# Altium integrated library Atmel Microcontroller AVR Automotive.IntLib: 198 symbols (part 7 of 8)
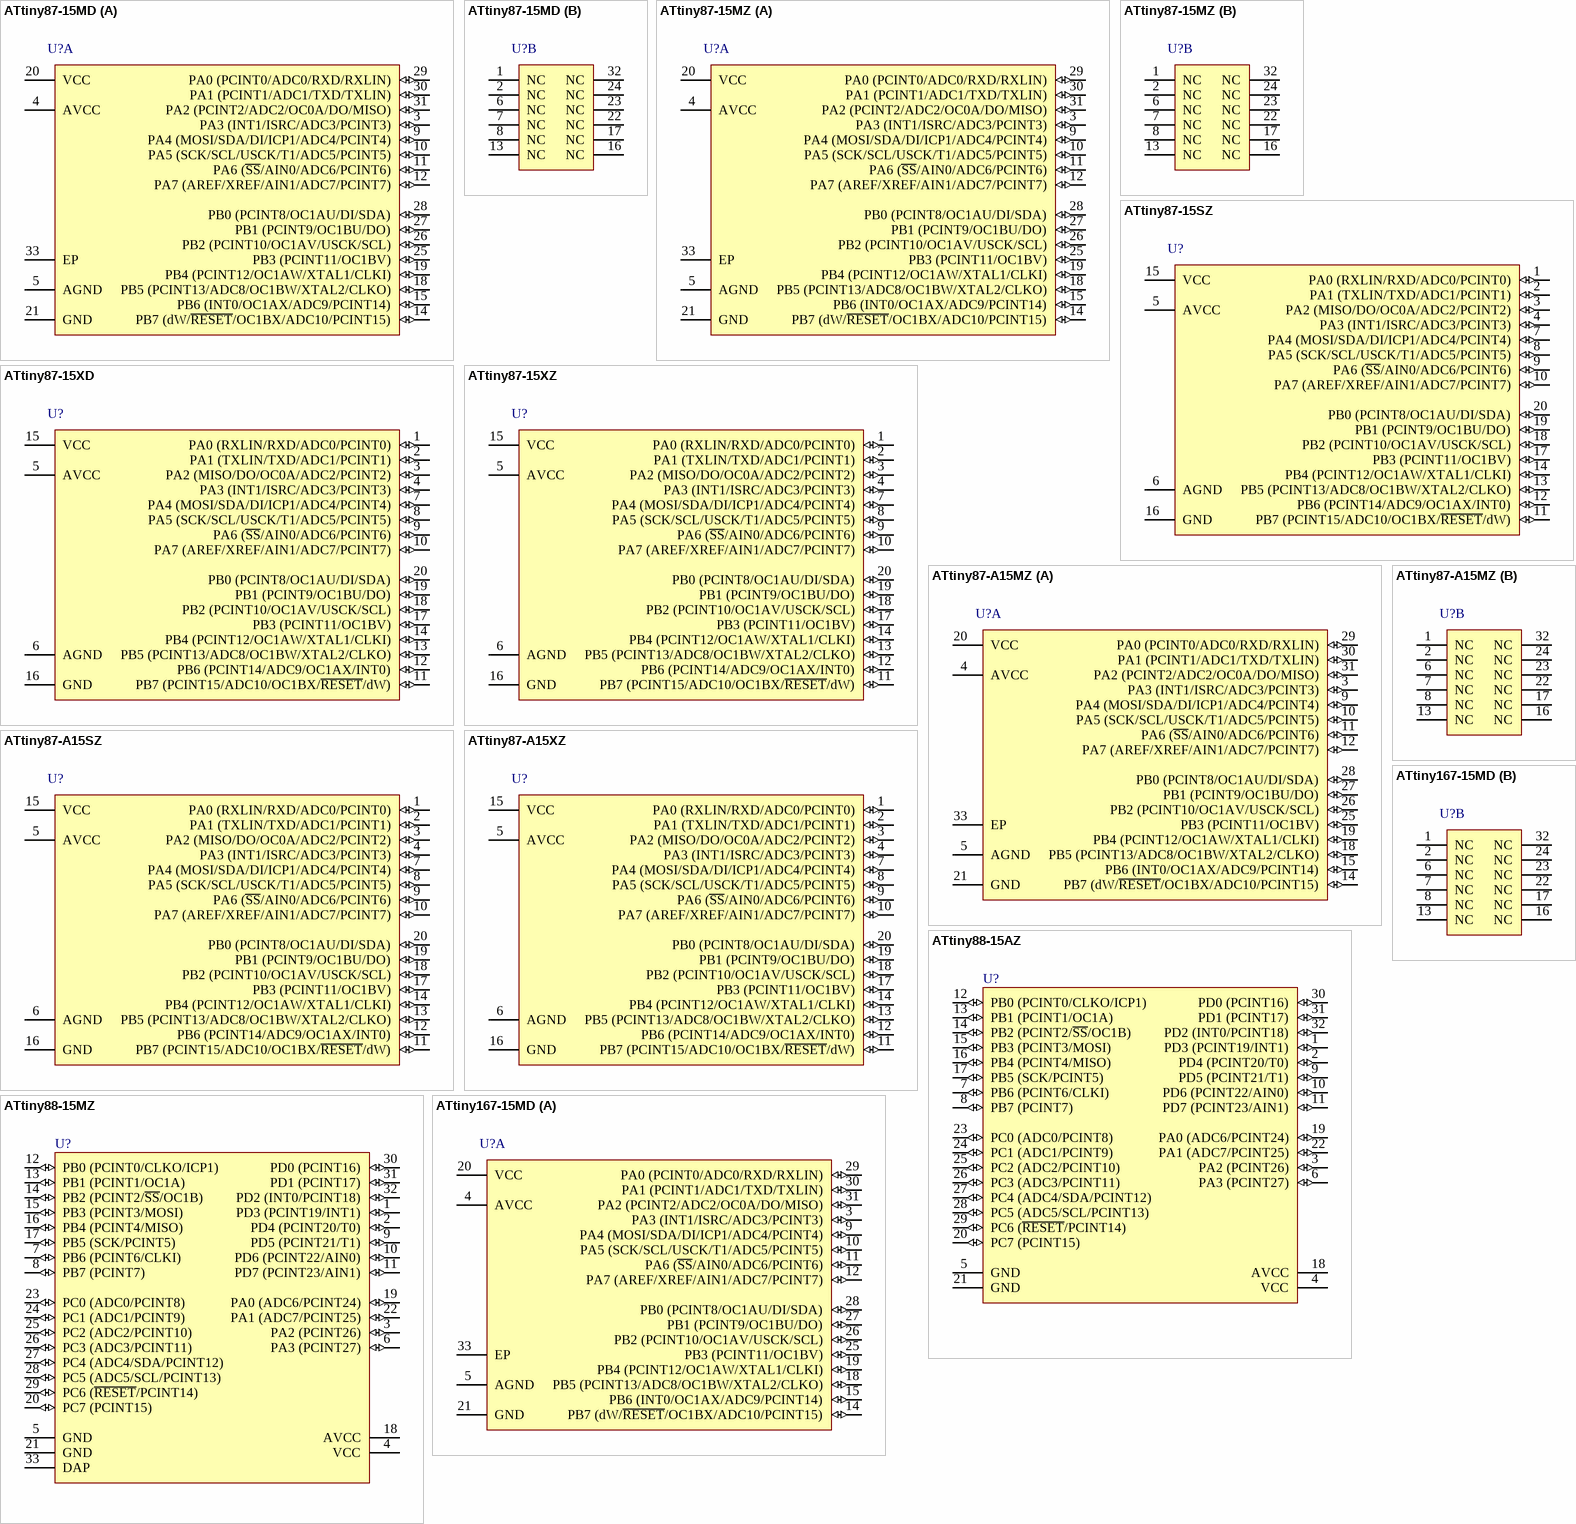
[diagram p28: symbols ATtiny87-15MD to ATtiny167-15MD]

## ATtiny87-A15MZ
designator U?
8-bit Automotive AVR Microcontroller, 16MHz, 2.7-5.5V, 8KB Flash, 512 Bytes EEPROM, 512 Bytes SRAM, Automotive Grade (-40°C to +125°C), 32-Pin VQFN; DatasheetVersion: revG, Jun-2010; PackageVersion: revH, Nov-2008; PackageReference: 32PN; PackageDescription: 32-Pin Quad Flat No-Lead, 5 x 5 mm Body,  0.5 mm Pitch (QFN); Code_JEDEC: MO-220-VHHD-2; ComponentLink1Description: Manufacturer URL; ComponentLink1URL: http://www.atmel.com/; ComponentLink2Description: ATtiny87/ATtiny167 Datasheet; ComponentLink2URL: http://www.atmel.com/dyn/resources/prod_documents/doc7728.pdf
footprint 32PN_N (QFN, 32-Leads, Body 5x5mm, Pitch 0.5mm, Thermal Pad 3.2x3.2mm, IPC Medium Density)
footprint 32PN_L (QFN, 32-Leads, Body 5x5mm, Pitch 0.5mm, Thermal Pad 3.2x3.2mm, IPC High Density)
footprint 32PN_M (QFN, 32-Leads, Body 5x5mm, Pitch 0.5mm, Thermal Pad 3.2x3.2mm, IPC Low Density)
part A pins: 3 PA3 (INT1/ISRC/ADC3/PCINT3) (io), 4 AVCC (power), 5 AGND (power), 9 PA4 (MOSI/SDA/DI/ICP1/ADC4/PCINT4) (io), 10 PA5 (SCK/SCL/USCK/T1/ADC5/PCINT5) (io), 11 PA6 (~{SS}/AIN0/ADC6/PCINT6) (io), 12 PA7 (AREF/XREF/AIN1/ADC7/PCINT7) (io), 14 PB7 (dW/~{RESET}/OC1BX/ADC10/PCINT15) (io), 15 PB6 (INT0/OC1AX/ADC9/PCINT14) (io), 18 PB5 (PCINT13/ADC8/OC1BW/XTAL2/CLKO) (io), 19 PB4 (PCINT12/OC1AW/XTAL1/CLKI) (io), 20 VCC (power), 21 GND (power), 25 PB3 (PCINT11/OC1BV) (io), 26 PB2 (PCINT10/OC1AV/USCK/SCL) (io), 27 PB1 (PCINT9/OC1BU/DO) (io), 28 PB0 (PCINT8/OC1AU/DI/SDA) (io), 29 PA0 (PCINT0/ADC0/RXD/RXLIN) (io), 30 PA1 (PCINT1/ADC1/TXD/TXLIN) (io), 31 PA2 (PCINT2/ADC2/OC0A/DO/MISO) (io), 33 EP (power)
part B pins: 1 NC, 2 NC, 6 NC, 7 NC, 8 NC, 13 NC, 16 NC, 17 NC, 22 NC, 23 NC, 24 NC, 32 NC

## ATtiny87-A15SZ
designator U?
8-bit Automotive AVR Microcontroller, 16MHz, 2.7-5.5V, 8KB Flash, 512 Bytes EEPROM, 512 Bytes SRAM, Automotive Grade (-40°C to +125°C), 20-Pin SOIC; DatasheetVersion: revD, Jul-2009; PackageVersion: 2009; PackageReference: 20TG; PackageDescription: 20-pin, 0.300” Wide, Plastic Gull-Wing Small Outline (EIAJ SOIC); Code_JEDEC: MS-013-AC; Code_IPC: SOIC127P1030-20; ComponentLink1Description: Manufacturer URL; ComponentLink1URL: http://www.atmel.com/; ComponentLink2Description: ATtiny87/ATtiny167 Datasheet; ComponentLink2URL: http://www.atmel.com/dyn/resources/prod_documents/doc7728.pdf
footprint 20TG_N (SOIC, 20-Leads, Body 12.8x7.5mm, Pitch 1.27mm, IPC Medium Density)
footprint 20TG_L (SOIC, 20-Leads, Body 12.8x7.5mm, Pitch 1.27mm, IPC High Density)
footprint 20TG_M (SOIC, 20-Leads, Body 12.8x7.5mm, Pitch 1.27mm, IPC Low Density)
pins: 1 PA0 (RXLIN/RXD/ADC0/PCINT0) (io), 2 PA1 (TXLIN/TXD/ADC1/PCINT1) (io), 3 PA2 (MISO/DO/OC0A/ADC2/PCINT2) (io), 4 PA3 (INT1/ISRC/ADC3/PCINT3) (io), 5 AVCC (power), 6 AGND (power), 7 PA4 (MOSI/SDA/DI/ICP1/ADC4/PCINT4) (io), 8 PA5 (SCK/SCL/USCK/T1/ADC5/PCINT5) (io), 9 PA6 (~{SS}/AIN0/ADC6/PCINT6) (io), 10 PA7 (AREF/XREF/AIN1/ADC7/PCINT7) (io), 11 PB7 (PCINT15/ADC10/OC1BX/~{RESET}/dW) (io), 12 PB6 (PCINT14/ADC9/OC1AX/INT0) (io), 13 PB5 (PCINT13/ADC8/OC1BW/XTAL2/CLKO) (io), 14 PB4 (PCINT12/OC1AW/XTAL1/CLKI) (io), 15 VCC (power), 16 GND (power), 17 PB3 (PCINT11/OC1BV) (io), 18 PB2 (PCINT10/OC1AV/USCK/SCL) (io), 19 PB1 (PCINT9/OC1BU/DO) (io), 20 PB0 (PCINT8/OC1AU/DI/SDA) (io)

## ATtiny87-A15XZ
designator U?
8-bit Automotive AVR Microcontroller, 16MHz, 2.7-5.5V, 8KB Flash, 512 Bytes EEPROM, 512 Bytes SRAM, Automotive Grade (-40°C to +125°C), 20-Pin TSSOP; DatasheetVersion: revD, Jul-2009; PackageVersion: revA, Dec-2007; PackageReference: 6G; PackageDescription: 20-Lead, 4.4 x 6.5 mm Body, 0.65 mm Pitch, Lead Length: 0.6 mm, Thin Shrink Small Outline Package (TSSOP); Code_JEDEC: MO-153-AC; ComponentLink1Description: Manufacturer URL; ComponentLink1URL: http://www.atmel.com/; ComponentLink2Description: ATtiny87/ATtiny167 Datasheet; ComponentLink2URL: http://www.atmel.com/dyn/resources/prod_documents/doc7728.pdf
footprint 6G_N (TSOP, 20-Leads, Body 6.5x4.4mm, Pitch 0.65mm, IPC Medium Density)
footprint 6G_L (TSOP, 20-Leads, Body 6.5x4.4mm, Pitch 0.65mm, IPC High Density)
footprint 6G_M (TSOP, 20-Leads, Body 6.5x4.4mm, Pitch 0.65mm, IPC Low Density)
pins: 1 PA0 (RXLIN/RXD/ADC0/PCINT0) (io), 2 PA1 (TXLIN/TXD/ADC1/PCINT1) (io), 3 PA2 (MISO/DO/OC0A/ADC2/PCINT2) (io), 4 PA3 (INT1/ISRC/ADC3/PCINT3) (io), 5 AVCC (power), 6 AGND (power), 7 PA4 (MOSI/SDA/DI/ICP1/ADC4/PCINT4) (io), 8 PA5 (SCK/SCL/USCK/T1/ADC5/PCINT5) (io), 9 PA6 (~{SS}/AIN0/ADC6/PCINT6) (io), 10 PA7 (AREF/XREF/AIN1/ADC7/PCINT7) (io), 11 PB7 (PCINT15/ADC10/OC1BX/~{RESET}/dW) (io), 12 PB6 (PCINT14/ADC9/OC1AX/INT0) (io), 13 PB5 (PCINT13/ADC8/OC1BW/XTAL2/CLKO) (io), 14 PB4 (PCINT12/OC1AW/XTAL1/CLKI) (io), 15 VCC (power), 16 GND (power), 17 PB3 (PCINT11/OC1BV) (io), 18 PB2 (PCINT10/OC1AV/USCK/SCL) (io), 19 PB1 (PCINT9/OC1BU/DO) (io), 20 PB0 (PCINT8/OC1AU/DI/SDA) (io)

## ATtiny88-15AZ
designator U?
8-bit Automotive AVR Microcontroller, 8KB Flash, 64 Bytes EEPROM, 512 Bytes SRAM, Automotive Grade (-40°C to +125°C), 32-Pin TQFP; DatasheetVersion: revB, Jan-2010; PackageVersion: revB, Jul-2007; PackageReference: 32MA; PackageDescription: 32-Lead Thin Profile Plastic Quad Flatpack (TQFP) - 7x7x1mm Body,  0.8 mm Pitch; ComponentLink1Description: Manufacturer URL; ComponentLink1URL: http://www.atmel.com/; ComponentLink2Description: ATtiny88 Datasheet; ComponentLink2URL: http://www.atmel.com/dyn/resources/prod_documents/doc9157.pdf
footprint 32MA_N (Thin QFP, 32-Leads, Body 7x7mm, Pitch 0.8mm, IPC Medium Density)
footprint 32MA_L (Thin QFP, 32-Leads, Body 7x7mm, Pitch 0.8mm, IPC High Density)
footprint 32MA_M (Thin QFP, 32-Leads, Body 7x7mm, Pitch 0.8mm, IPC Low Density)
pins: 1 PD3 (PCINT19/INT1) (io), 2 PD4 (PCINT20/T0) (io), 3 PA2 (PCINT26) (io), 4 VCC (power), 5 GND (power), 6 PA3 (PCINT27) (io), 7 PB6 (PCINT6/CLKI) (io), 8 PB7 (PCINT7) (io), 9 PD5 (PCINT21/T1) (io), 10 PD6 (PCINT22/AIN0) (io), 11 PD7 (PCINT23/AIN1) (io), 12 PB0 (PCINT0/CLKO/ICP1) (io), 13 PB1 (PCINT1/OC1A) (io), 14 PB2 (PCINT2/~{SS}/OC1B) (io), 15 PB3 (PCINT3/MOSI) (io), 16 PB4 (PCINT4/MISO) (io), 17 PB5 (SCK/PCINT5) (io), 18 AVCC (power), 19 PA0 (ADC6/PCINT24) (io), 20 PC7 (PCINT15) (io), 21 GND (power), 22 PA1 (ADC7/PCINT25) (io), 23 PC0 (ADC0/PCINT8) (io), 24 PC1 (ADC1/PCINT9) (io), 25 PC2 (ADC2/PCINT10) (io), 26 PC3 (ADC3/PCINT11) (io), 27 PC4 (ADC4/SDA/PCINT12) (io), 28 PC5 (ADC5/SCL/PCINT13) (io), 29 PC6 (~{RESET}/PCINT14) (io), 30 PD0 (PCINT16) (io), 31 PD1 (PCINT17) (io), 32 PD2 (INT0/PCINT18) (io)

## ATtiny88-15MZ
designator U?
8-bit Automotive AVR Microcontroller, 8KB Flash, 64 Bytes EEPROM, 512 Bytes SRAM, Automotive Grade (-40°C to +125°C), 32-Pin VQFN; DatasheetVersion: revB, Jan-2010; PackageVersion: revH, Nov-2008; PackageReference: 32PN; PackageDescription: 32-Pin Quad Flat No-Lead, 5 x 5 mm Body,  0.5 mm Pitch (QFN); Code_JEDEC: MO-220-VHHD-2; ComponentLink1Description: Manufacturer URL; ComponentLink1URL: http://www.atmel.com/; ComponentLink2Description: ATtiny88 Datasheet; ComponentLink2URL: http://www.atmel.com/dyn/resources/prod_documents/doc9157.pdf
footprint 32PN_N (QFN, 32-Leads, Body 5x5mm, Pitch 0.5mm, Thermal Pad 3.2x3.2mm, IPC Medium Density)
footprint 32PN_L (QFN, 32-Leads, Body 5x5mm, Pitch 0.5mm, Thermal Pad 3.2x3.2mm, IPC High Density)
footprint 32PN_M (QFN, 32-Leads, Body 5x5mm, Pitch 0.5mm, Thermal Pad 3.2x3.2mm, IPC Low Density)
pins: 1 PD3 (PCINT19/INT1) (io), 2 PD4 (PCINT20/T0) (io), 3 PA2 (PCINT26) (io), 4 VCC (power), 5 GND (power), 6 PA3 (PCINT27) (io), 7 PB6 (PCINT6/CLKI) (io), 8 PB7 (PCINT7) (io), 9 PD5 (PCINT21/T1) (io), 10 PD6 (PCINT22/AIN0) (io), 11 PD7 (PCINT23/AIN1) (io), 12 PB0 (PCINT0/CLKO/ICP1) (io), 13 PB1 (PCINT1/OC1A) (io), 14 PB2 (PCINT2/~{SS}/OC1B) (io), 15 PB3 (PCINT3/MOSI) (io), 16 PB4 (PCINT4/MISO) (io), 17 PB5 (SCK/PCINT5) (io), 18 AVCC (power), 19 PA0 (ADC6/PCINT24) (io), 20 PC7 (PCINT15) (io), 21 GND (power), 22 PA1 (ADC7/PCINT25) (io), 23 PC0 (ADC0/PCINT8) (io), 24 PC1 (ADC1/PCINT9) (io), 25 PC2 (ADC2/PCINT10) (io), 26 PC3 (ADC3/PCINT11) (io), 27 PC4 (ADC4/SDA/PCINT12) (io), 28 PC5 (ADC5/SCL/PCINT13) (io), 29 PC6 (~{RESET}/PCINT14) (io), 30 PD0 (PCINT16) (io), 31 PD1 (PCINT17) (io), 32 PD2 (INT0/PCINT18) (io), 33 DAP

## ATtiny167-15MD
designator U?
8-bit Automotive AVR Microcontroller, 16KB Flash, 512 Bytes EEPROM, 512 Bytes SRAM, Extended Grade (-40°C to +150°C), 32-Pin VQFN; DatasheetVersion: revD, Nov-2010; PackageVersion: revH, Nov-2008; PackageReference: 32PN; PackageDescription: 32-Pin Quad Flat No-Lead, 5 x 5 mm Body,  0.5 mm Pitch (QFN); Code_JEDEC: MO-220-VHHD-2; ComponentLink1Description: Manufacturer URL; ComponentLink1URL: http://www.atmel.com/; ComponentLink2Description: ATtiny87/ATtiny167 Datasheet; ComponentLink2URL: http://www.atmel.com/dyn/resources/prod_documents/doc7728.pdf; ComponentLink3Description: ATtiny87/ATtiny167 Appendix; ComponentLink3URL: http://www.atmel.com/dyn/resources/prod_documents/doc7792.pdf
footprint 32PN_N (QFN, 32-Leads, Body 5x5mm, Pitch 0.5mm, Thermal Pad 3.2x3.2mm, IPC Medium Density)
footprint 32PN_L (QFN, 32-Leads, Body 5x5mm, Pitch 0.5mm, Thermal Pad 3.2x3.2mm, IPC High Density)
footprint 32PN_M (QFN, 32-Leads, Body 5x5mm, Pitch 0.5mm, Thermal Pad 3.2x3.2mm, IPC Low Density)
part A pins: 3 PA3 (INT1/ISRC/ADC3/PCINT3) (io), 4 AVCC (power), 5 AGND (power), 9 PA4 (MOSI/SDA/DI/ICP1/ADC4/PCINT4) (io), 10 PA5 (SCK/SCL/USCK/T1/ADC5/PCINT5) (io), 11 PA6 (~{SS}/AIN0/ADC6/PCINT6) (io), 12 PA7 (AREF/XREF/AIN1/ADC7/PCINT7) (io), 14 PB7 (dW/~{RESET}/OC1BX/ADC10/PCINT15) (io), 15 PB6 (INT0/OC1AX/ADC9/PCINT14) (io), 18 PB5 (PCINT13/ADC8/OC1BW/XTAL2/CLKO) (io), 19 PB4 (PCINT12/OC1AW/XTAL1/CLKI) (io), 20 VCC (power), 21 GND (power), 25 PB3 (PCINT11/OC1BV) (io), 26 PB2 (PCINT10/OC1AV/USCK/SCL) (io), 27 PB1 (PCINT9/OC1BU/DO) (io), 28 PB0 (PCINT8/OC1AU/DI/SDA) (io), 29 PA0 (PCINT0/ADC0/RXD/RXLIN) (io), 30 PA1 (PCINT1/ADC1/TXD/TXLIN) (io), 31 PA2 (PCINT2/ADC2/OC0A/DO/MISO) (io), 33 EP (power)
part B pins: 1 NC, 2 NC, 6 NC, 7 NC, 8 NC, 13 NC, 16 NC, 17 NC, 22 NC, 23 NC, 24 NC, 32 NC

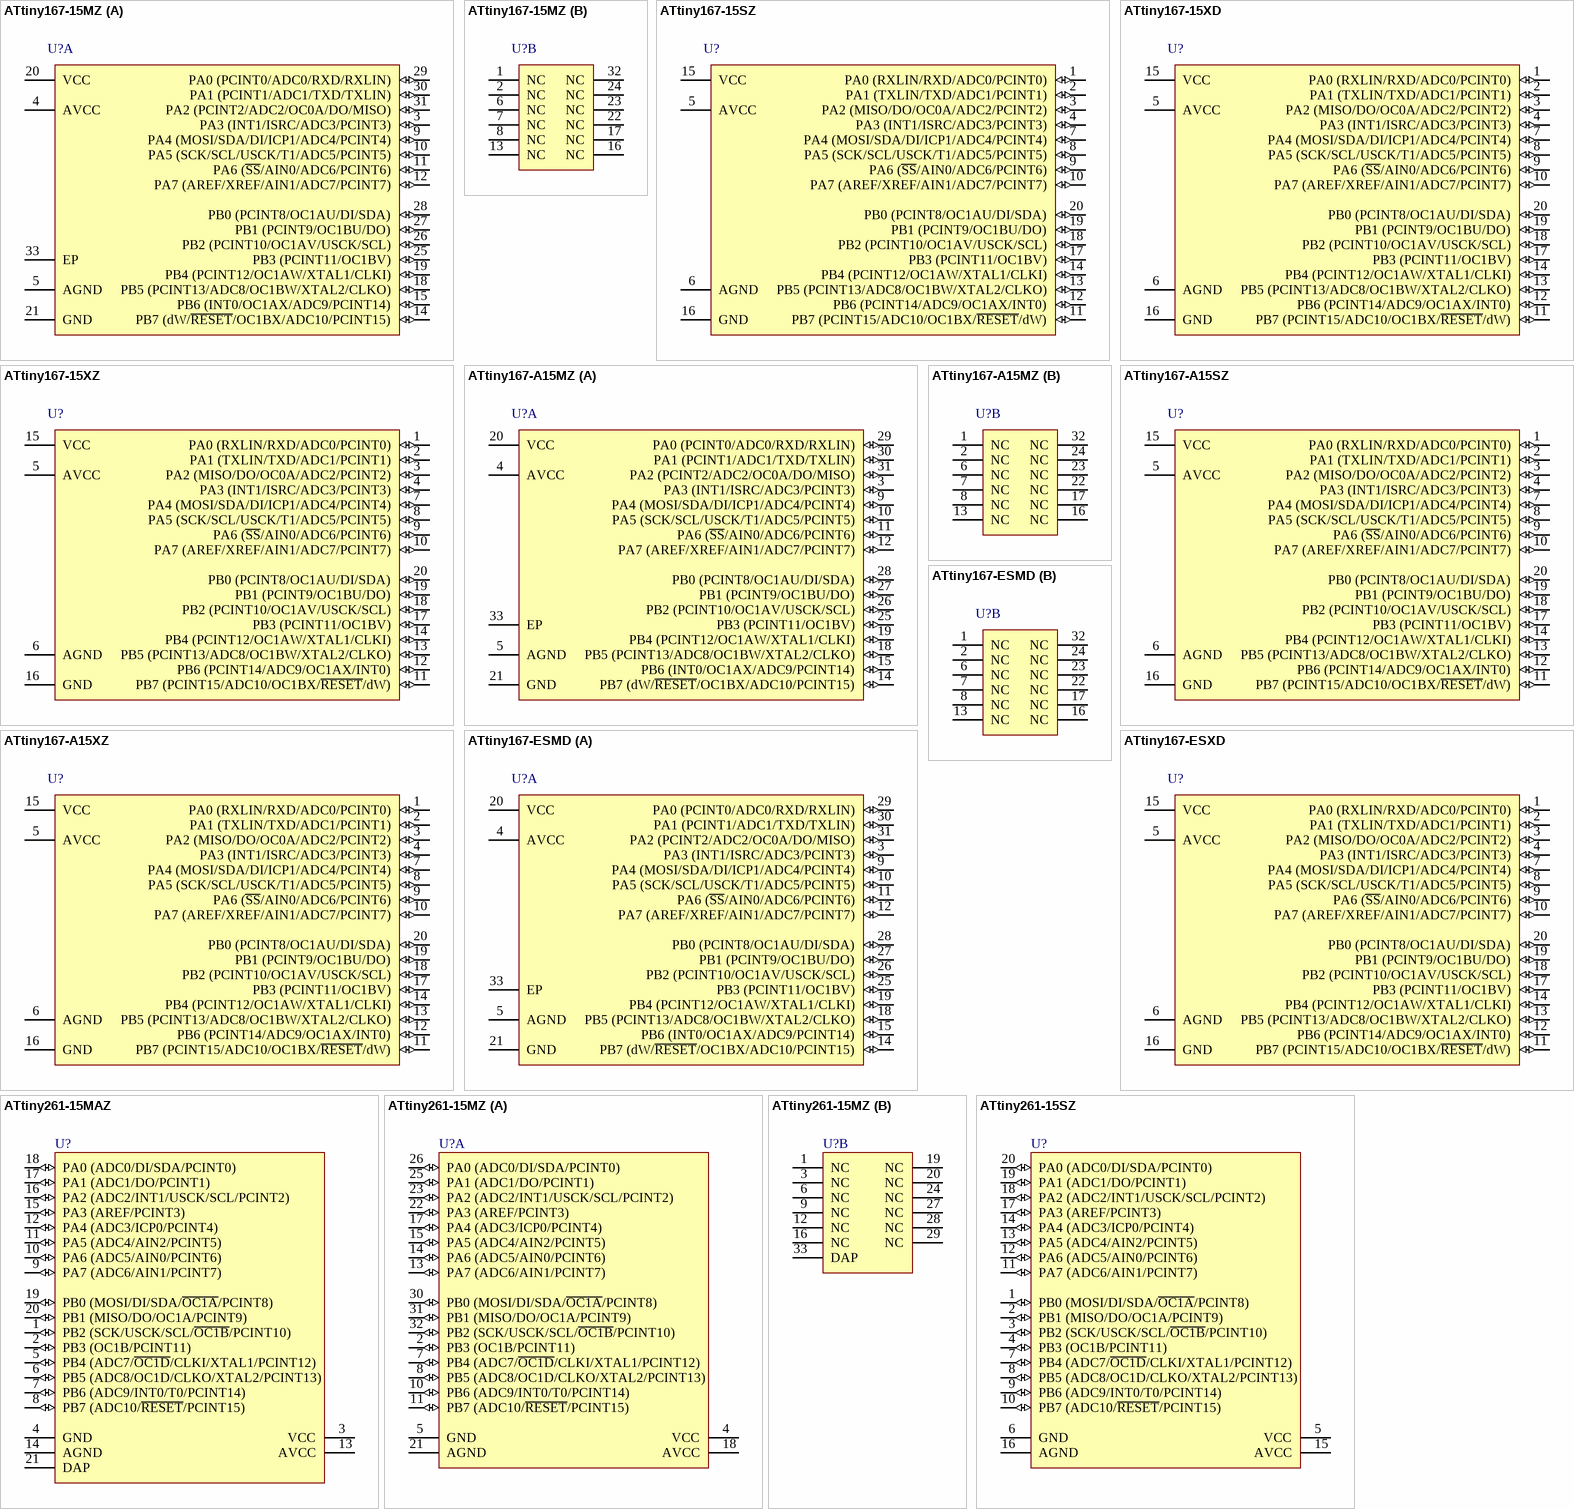
[diagram p19: symbols ATtiny167-15MZ to ATtiny261-15SZ]

## ATtiny167-15MZ
designator U?
8-bit Automotive AVR Microcontroller, 16MHz, 2.7-5.5V, 16KB Flash, 512 Bytes EEPROM, 512 Bytes SRAM, Automotive Grade (-40°C to +125°C), 32-Pin VQFN; DatasheetVersion: revD, Nov-2010; PackageVersion: revH, Nov-2008; PackageReference: 32PN; PackageDescription: 32-Pin Quad Flat No-Lead, 5 x 5 mm Body,  0.5 mm Pitch (QFN); Code_JEDEC: MO-220-VHHD-2; ComponentLink1Description: Manufacturer URL; ComponentLink1URL: http://www.atmel.com/; ComponentLink2Description: ATtiny87/ATtiny167 Datasheet; ComponentLink2URL: http://www.atmel.com/dyn/resources/prod_documents/doc7728.pdf
footprint 32PN_N (QFN, 32-Leads, Body 5x5mm, Pitch 0.5mm, Thermal Pad 3.2x3.2mm, IPC Medium Density)
footprint 32PN_L (QFN, 32-Leads, Body 5x5mm, Pitch 0.5mm, Thermal Pad 3.2x3.2mm, IPC High Density)
footprint 32PN_M (QFN, 32-Leads, Body 5x5mm, Pitch 0.5mm, Thermal Pad 3.2x3.2mm, IPC Low Density)
part A pins: 3 PA3 (INT1/ISRC/ADC3/PCINT3) (io), 4 AVCC (power), 5 AGND (power), 9 PA4 (MOSI/SDA/DI/ICP1/ADC4/PCINT4) (io), 10 PA5 (SCK/SCL/USCK/T1/ADC5/PCINT5) (io), 11 PA6 (~{SS}/AIN0/ADC6/PCINT6) (io), 12 PA7 (AREF/XREF/AIN1/ADC7/PCINT7) (io), 14 PB7 (dW/~{RESET}/OC1BX/ADC10/PCINT15) (io), 15 PB6 (INT0/OC1AX/ADC9/PCINT14) (io), 18 PB5 (PCINT13/ADC8/OC1BW/XTAL2/CLKO) (io), 19 PB4 (PCINT12/OC1AW/XTAL1/CLKI) (io), 20 VCC (power), 21 GND (power), 25 PB3 (PCINT11/OC1BV) (io), 26 PB2 (PCINT10/OC1AV/USCK/SCL) (io), 27 PB1 (PCINT9/OC1BU/DO) (io), 28 PB0 (PCINT8/OC1AU/DI/SDA) (io), 29 PA0 (PCINT0/ADC0/RXD/RXLIN) (io), 30 PA1 (PCINT1/ADC1/TXD/TXLIN) (io), 31 PA2 (PCINT2/ADC2/OC0A/DO/MISO) (io), 33 EP (power)
part B pins: 1 NC, 2 NC, 6 NC, 7 NC, 8 NC, 13 NC, 16 NC, 17 NC, 22 NC, 23 NC, 24 NC, 32 NC

## ATtiny167-15SZ
designator U?
8-bit Automotive AVR Microcontroller, 16MHz, 2.7-5.5V, 16KB Flash, 512 Bytes EEPROM, 512 Bytes SRAM, Automotive Grade (-40°C to +125°C), 20-Pin SOIC; DatasheetVersion: revD, Nov-2010; PackageVersion: 2009; PackageReference: 20TG; PackageDescription: 20-pin, 0.300” Wide, Plastic Gull-Wing Small Outline (EIAJ SOIC); Code_JEDEC: MS-013-AC; Code_IPC: SOIC127P1030-20; ComponentLink1Description: Manufacturer URL; ComponentLink1URL: http://www.atmel.com/; ComponentLink2Description: ATtiny87/ATtiny167 Datasheet; ComponentLink2URL: http://www.atmel.com/dyn/resources/prod_documents/doc7728.pdf
footprint 20TG_N (SOIC, 20-Leads, Body 12.8x7.5mm, Pitch 1.27mm, IPC Medium Density)
footprint 20TG_L (SOIC, 20-Leads, Body 12.8x7.5mm, Pitch 1.27mm, IPC High Density)
footprint 20TG_M (SOIC, 20-Leads, Body 12.8x7.5mm, Pitch 1.27mm, IPC Low Density)
pins: 1 PA0 (RXLIN/RXD/ADC0/PCINT0) (io), 2 PA1 (TXLIN/TXD/ADC1/PCINT1) (io), 3 PA2 (MISO/DO/OC0A/ADC2/PCINT2) (io), 4 PA3 (INT1/ISRC/ADC3/PCINT3) (io), 5 AVCC (power), 6 AGND (power), 7 PA4 (MOSI/SDA/DI/ICP1/ADC4/PCINT4) (io), 8 PA5 (SCK/SCL/USCK/T1/ADC5/PCINT5) (io), 9 PA6 (~{SS}/AIN0/ADC6/PCINT6) (io), 10 PA7 (AREF/XREF/AIN1/ADC7/PCINT7) (io), 11 PB7 (PCINT15/ADC10/OC1BX/~{RESET}/dW) (io), 12 PB6 (PCINT14/ADC9/OC1AX/INT0) (io), 13 PB5 (PCINT13/ADC8/OC1BW/XTAL2/CLKO) (io), 14 PB4 (PCINT12/OC1AW/XTAL1/CLKI) (io), 15 VCC (power), 16 GND (power), 17 PB3 (PCINT11/OC1BV) (io), 18 PB2 (PCINT10/OC1AV/USCK/SCL) (io), 19 PB1 (PCINT9/OC1BU/DO) (io), 20 PB0 (PCINT8/OC1AU/DI/SDA) (io)

## ATtiny167-15XD
designator U?
8-bit Automotive AVR Microcontroller, 16KB Flash, 512 Bytes EEPROM, 512 Bytes SRAM, Extended Grade (-40°C to +150°C), 20-Pin TSSOP; DatasheetVersion: revD, Nov-2010; PackageVersion: revA, Dec-2007; PackageReference: 6G; PackageDescription: 20-Lead, 4.4 x 6.5 mm Body, 0.65 mm Pitch, Lead Length: 0.6 mm, Thin Shrink Small Outline Package (TSSOP); Code_JEDEC: MO-153-AC; ComponentLink1Description: Manufacturer URL; ComponentLink1URL: http://www.atmel.com/; ComponentLink2Description: ATtiny87/ATtiny167 Datasheet; ComponentLink2URL: http://www.atmel.com/dyn/resources/prod_documents/doc7728.pdf; ComponentLink3Description: ATtiny87/ATtiny167 Appendix; ComponentLink3URL: http://www.atmel.com/dyn/resources/prod_documents/doc7792.pdf
footprint 6G_N (TSOP, 20-Leads, Body 6.5x4.4mm, Pitch 0.65mm, IPC Medium Density)
footprint 6G_L (TSOP, 20-Leads, Body 6.5x4.4mm, Pitch 0.65mm, IPC High Density)
footprint 6G_M (TSOP, 20-Leads, Body 6.5x4.4mm, Pitch 0.65mm, IPC Low Density)
pins: 1 PA0 (RXLIN/RXD/ADC0/PCINT0) (io), 2 PA1 (TXLIN/TXD/ADC1/PCINT1) (io), 3 PA2 (MISO/DO/OC0A/ADC2/PCINT2) (io), 4 PA3 (INT1/ISRC/ADC3/PCINT3) (io), 5 AVCC (power), 6 AGND (power), 7 PA4 (MOSI/SDA/DI/ICP1/ADC4/PCINT4) (io), 8 PA5 (SCK/SCL/USCK/T1/ADC5/PCINT5) (io), 9 PA6 (~{SS}/AIN0/ADC6/PCINT6) (io), 10 PA7 (AREF/XREF/AIN1/ADC7/PCINT7) (io), 11 PB7 (PCINT15/ADC10/OC1BX/~{RESET}/dW) (io), 12 PB6 (PCINT14/ADC9/OC1AX/INT0) (io), 13 PB5 (PCINT13/ADC8/OC1BW/XTAL2/CLKO) (io), 14 PB4 (PCINT12/OC1AW/XTAL1/CLKI) (io), 15 VCC (power), 16 GND (power), 17 PB3 (PCINT11/OC1BV) (io), 18 PB2 (PCINT10/OC1AV/USCK/SCL) (io), 19 PB1 (PCINT9/OC1BU/DO) (io), 20 PB0 (PCINT8/OC1AU/DI/SDA) (io)

## ATtiny167-15XZ
designator U?
8-bit Automotive AVR Microcontroller, 16MHz, 2.7-5.5V, 16KB Flash, 512 Bytes EEPROM, 512 Bytes SRAM, Automotive Grade (-40°C to +125°C), 20-Pin TSSOP; DatasheetVersion: revD, Nov-2010; PackageVersion: revA, Dec-2007; PackageReference: 6G; PackageDescription: 20-Lead, 4.4 x 6.5 mm Body, 0.65 mm Pitch, Lead Length: 0.6 mm, Thin Shrink Small Outline Package (TSSOP); Code_JEDEC: MO-153-AC; ComponentLink1Description: Manufacturer URL; ComponentLink1URL: http://www.atmel.com/; ComponentLink2Description: ATtiny87/ATtiny167 Datasheet; ComponentLink2URL: http://www.atmel.com/dyn/resources/prod_documents/doc7728.pdf
footprint 6G_N (TSOP, 20-Leads, Body 6.5x4.4mm, Pitch 0.65mm, IPC Medium Density)
footprint 6G_L (TSOP, 20-Leads, Body 6.5x4.4mm, Pitch 0.65mm, IPC High Density)
footprint 6G_M (TSOP, 20-Leads, Body 6.5x4.4mm, Pitch 0.65mm, IPC Low Density)
pins: 1 PA0 (RXLIN/RXD/ADC0/PCINT0) (io), 2 PA1 (TXLIN/TXD/ADC1/PCINT1) (io), 3 PA2 (MISO/DO/OC0A/ADC2/PCINT2) (io), 4 PA3 (INT1/ISRC/ADC3/PCINT3) (io), 5 AVCC (power), 6 AGND (power), 7 PA4 (MOSI/SDA/DI/ICP1/ADC4/PCINT4) (io), 8 PA5 (SCK/SCL/USCK/T1/ADC5/PCINT5) (io), 9 PA6 (~{SS}/AIN0/ADC6/PCINT6) (io), 10 PA7 (AREF/XREF/AIN1/ADC7/PCINT7) (io), 11 PB7 (PCINT15/ADC10/OC1BX/~{RESET}/dW) (io), 12 PB6 (PCINT14/ADC9/OC1AX/INT0) (io), 13 PB5 (PCINT13/ADC8/OC1BW/XTAL2/CLKO) (io), 14 PB4 (PCINT12/OC1AW/XTAL1/CLKI) (io), 15 VCC (power), 16 GND (power), 17 PB3 (PCINT11/OC1BV) (io), 18 PB2 (PCINT10/OC1AV/USCK/SCL) (io), 19 PB1 (PCINT9/OC1BU/DO) (io), 20 PB0 (PCINT8/OC1AU/DI/SDA) (io)

## ATtiny167-A15MZ
designator U?
8-bit Automotive AVR Microcontroller, 16MHz, 2.7-5.5V, 16KB Flash, 512 Bytes EEPROM, 512 Bytes SRAM, Automotive Grade (-40°C to +125°C), 32-Pin VQFN; DatasheetVersion: revD, Jul-2009; PackageVersion: revH, Nov-2008; PackageReference: 32PN; PackageDescription: 32-Pin Quad Flat No-Lead, 5 x 5 mm Body,  0.5 mm Pitch (QFN); Code_JEDEC: MO-220-VHHD-2; ComponentLink1Description: Manufacturer URL; ComponentLink1URL: http://www.atmel.com/; ComponentLink2Description: ATtiny87/ATtiny167 Datasheet; ComponentLink2URL: http://www.atmel.com/dyn/resources/prod_documents/doc7728.pdf
footprint 32PN_N (QFN, 32-Leads, Body 5x5mm, Pitch 0.5mm, Thermal Pad 3.2x3.2mm, IPC Medium Density)
footprint 32PN_L (QFN, 32-Leads, Body 5x5mm, Pitch 0.5mm, Thermal Pad 3.2x3.2mm, IPC High Density)
footprint 32PN_M (QFN, 32-Leads, Body 5x5mm, Pitch 0.5mm, Thermal Pad 3.2x3.2mm, IPC Low Density)
part A pins: 3 PA3 (INT1/ISRC/ADC3/PCINT3) (io), 4 AVCC (power), 5 AGND (power), 9 PA4 (MOSI/SDA/DI/ICP1/ADC4/PCINT4) (io), 10 PA5 (SCK/SCL/USCK/T1/ADC5/PCINT5) (io), 11 PA6 (~{SS}/AIN0/ADC6/PCINT6) (io), 12 PA7 (AREF/XREF/AIN1/ADC7/PCINT7) (io), 14 PB7 (dW/~{RESET}/OC1BX/ADC10/PCINT15) (io), 15 PB6 (INT0/OC1AX/ADC9/PCINT14) (io), 18 PB5 (PCINT13/ADC8/OC1BW/XTAL2/CLKO) (io), 19 PB4 (PCINT12/OC1AW/XTAL1/CLKI) (io), 20 VCC (power), 21 GND (power), 25 PB3 (PCINT11/OC1BV) (io), 26 PB2 (PCINT10/OC1AV/USCK/SCL) (io), 27 PB1 (PCINT9/OC1BU/DO) (io), 28 PB0 (PCINT8/OC1AU/DI/SDA) (io), 29 PA0 (PCINT0/ADC0/RXD/RXLIN) (io), 30 PA1 (PCINT1/ADC1/TXD/TXLIN) (io), 31 PA2 (PCINT2/ADC2/OC0A/DO/MISO) (io), 33 EP (power)
part B pins: 1 NC, 2 NC, 6 NC, 7 NC, 8 NC, 13 NC, 16 NC, 17 NC, 22 NC, 23 NC, 24 NC, 32 NC

## ATtiny167-A15SZ
designator U?
8-bit Automotive AVR Microcontroller, 16MHz, 2.7-5.5V, 16KB Flash, 512 Bytes EEPROM, 512 Bytes SRAM, Automotive Grade (-40°C to +125°C), 20-Pin SOIC; DatasheetVersion: revD, Jul-2009; PackageVersion: 2009; PackageReference: 20TG; PackageDescription: 20-pin, 0.300” Wide, Plastic Gull-Wing Small Outline (EIAJ SOIC); Code_JEDEC: MS-013-AC; Code_IPC: SOIC127P1030-20; ComponentLink1Description: Manufacturer URL; ComponentLink1URL: http://www.atmel.com/; ComponentLink2Description: ATtiny87/ATtiny167 Datasheet; ComponentLink2URL: http://www.atmel.com/dyn/resources/prod_documents/doc7728.pdf
footprint 20TG_N (SOIC, 20-Leads, Body 12.8x7.5mm, Pitch 1.27mm, IPC Medium Density)
footprint 20TG_L (SOIC, 20-Leads, Body 12.8x7.5mm, Pitch 1.27mm, IPC High Density)
footprint 20TG_M (SOIC, 20-Leads, Body 12.8x7.5mm, Pitch 1.27mm, IPC Low Density)
pins: 1 PA0 (RXLIN/RXD/ADC0/PCINT0) (io), 2 PA1 (TXLIN/TXD/ADC1/PCINT1) (io), 3 PA2 (MISO/DO/OC0A/ADC2/PCINT2) (io), 4 PA3 (INT1/ISRC/ADC3/PCINT3) (io), 5 AVCC (power), 6 AGND (power), 7 PA4 (MOSI/SDA/DI/ICP1/ADC4/PCINT4) (io), 8 PA5 (SCK/SCL/USCK/T1/ADC5/PCINT5) (io), 9 PA6 (~{SS}/AIN0/ADC6/PCINT6) (io), 10 PA7 (AREF/XREF/AIN1/ADC7/PCINT7) (io), 11 PB7 (PCINT15/ADC10/OC1BX/~{RESET}/dW) (io), 12 PB6 (PCINT14/ADC9/OC1AX/INT0) (io), 13 PB5 (PCINT13/ADC8/OC1BW/XTAL2/CLKO) (io), 14 PB4 (PCINT12/OC1AW/XTAL1/CLKI) (io), 15 VCC (power), 16 GND (power), 17 PB3 (PCINT11/OC1BV) (io), 18 PB2 (PCINT10/OC1AV/USCK/SCL) (io), 19 PB1 (PCINT9/OC1BU/DO) (io), 20 PB0 (PCINT8/OC1AU/DI/SDA) (io)

## ATtiny167-A15XZ
designator U?
8-bit Automotive AVR Microcontroller, 16MHz, 2.7-5.5V, 16KB Flash, 512 Bytes EEPROM, 512 Bytes SRAM, Automotive Grade (-40°C to +125°C), 20-Pin TSSOP; DatasheetVersion: revD, Jul-2009; PackageVersion: revA, Dec-2007; PackageReference: 6G; PackageDescription: 20-Lead, 4.4 x 6.5 mm Body, 0.65 mm Pitch, Lead Length: 0.6 mm, Thin Shrink Small Outline Package (TSSOP); Code_JEDEC: MO-153-AC; ComponentLink1Description: Manufacturer URL; ComponentLink1URL: http://www.atmel.com/; ComponentLink2Description: ATtiny87/ATtiny167 Datasheet; ComponentLink2URL: http://www.atmel.com/dyn/resources/prod_documents/doc7728.pdf
footprint 6G_N (TSOP, 20-Leads, Body 6.5x4.4mm, Pitch 0.65mm, IPC Medium Density)
footprint 6G_L (TSOP, 20-Leads, Body 6.5x4.4mm, Pitch 0.65mm, IPC High Density)
footprint 6G_M (TSOP, 20-Leads, Body 6.5x4.4mm, Pitch 0.65mm, IPC Low Density)
pins: 1 PA0 (RXLIN/RXD/ADC0/PCINT0) (io), 2 PA1 (TXLIN/TXD/ADC1/PCINT1) (io), 3 PA2 (MISO/DO/OC0A/ADC2/PCINT2) (io), 4 PA3 (INT1/ISRC/ADC3/PCINT3) (io), 5 AVCC (power), 6 AGND (power), 7 PA4 (MOSI/SDA/DI/ICP1/ADC4/PCINT4) (io), 8 PA5 (SCK/SCL/USCK/T1/ADC5/PCINT5) (io), 9 PA6 (~{SS}/AIN0/ADC6/PCINT6) (io), 10 PA7 (AREF/XREF/AIN1/ADC7/PCINT7) (io), 11 PB7 (PCINT15/ADC10/OC1BX/~{RESET}/dW) (io), 12 PB6 (PCINT14/ADC9/OC1AX/INT0) (io), 13 PB5 (PCINT13/ADC8/OC1BW/XTAL2/CLKO) (io), 14 PB4 (PCINT12/OC1AW/XTAL1/CLKI) (io), 15 VCC (power), 16 GND (power), 17 PB3 (PCINT11/OC1BV) (io), 18 PB2 (PCINT10/OC1AV/USCK/SCL) (io), 19 PB1 (PCINT9/OC1BU/DO) (io), 20 PB0 (PCINT8/OC1AU/DI/SDA) (io)

## ATtiny167-ESMD
designator U?
8-bit Automotive AVR Microcontroller, 16KB Flash, 512 Bytes EEPROM, 512 Bytes SRAM, 32-Pin VQFN, Engineering Sample; DatasheetVersion: revG, Jun-2010; PackageVersion: revH, Nov-2008; PackageReference: 32PN; PackageDescription: 32-Pin Quad Flat No-Lead, 5 x 5 mm Body,  0.5 mm Pitch (QFN); Code_JEDEC: MO-220-VHHD-2; ComponentLink1Description: Manufacturer URL; ComponentLink1URL: http://www.atmel.com/; ComponentLink2Description: ATtiny87/ATtiny167 Datasheet; ComponentLink2URL: http://www.atmel.com/dyn/resources/prod_documents/doc7728.pdf; ComponentLink3Description: ATtiny87/ATtiny167 Appendix; ComponentLink3URL: http://www.atmel.com/dyn/resources/prod_documents/doc7792.pdf
footprint 32PN_N (QFN, 32-Leads, Body 5x5mm, Pitch 0.5mm, Thermal Pad 3.2x3.2mm, IPC Medium Density)
footprint 32PN_L (QFN, 32-Leads, Body 5x5mm, Pitch 0.5mm, Thermal Pad 3.2x3.2mm, IPC High Density)
footprint 32PN_M (QFN, 32-Leads, Body 5x5mm, Pitch 0.5mm, Thermal Pad 3.2x3.2mm, IPC Low Density)
part A pins: 3 PA3 (INT1/ISRC/ADC3/PCINT3) (io), 4 AVCC (power), 5 AGND (power), 9 PA4 (MOSI/SDA/DI/ICP1/ADC4/PCINT4) (io), 10 PA5 (SCK/SCL/USCK/T1/ADC5/PCINT5) (io), 11 PA6 (~{SS}/AIN0/ADC6/PCINT6) (io), 12 PA7 (AREF/XREF/AIN1/ADC7/PCINT7) (io), 14 PB7 (dW/~{RESET}/OC1BX/ADC10/PCINT15) (io), 15 PB6 (INT0/OC1AX/ADC9/PCINT14) (io), 18 PB5 (PCINT13/ADC8/OC1BW/XTAL2/CLKO) (io), 19 PB4 (PCINT12/OC1AW/XTAL1/CLKI) (io), 20 VCC (power), 21 GND (power), 25 PB3 (PCINT11/OC1BV) (io), 26 PB2 (PCINT10/OC1AV/USCK/SCL) (io), 27 PB1 (PCINT9/OC1BU/DO) (io), 28 PB0 (PCINT8/OC1AU/DI/SDA) (io), 29 PA0 (PCINT0/ADC0/RXD/RXLIN) (io), 30 PA1 (PCINT1/ADC1/TXD/TXLIN) (io), 31 PA2 (PCINT2/ADC2/OC0A/DO/MISO) (io), 33 EP (power)
part B pins: 1 NC, 2 NC, 6 NC, 7 NC, 8 NC, 13 NC, 16 NC, 17 NC, 22 NC, 23 NC, 24 NC, 32 NC

## ATtiny167-ESXD
designator U?
8-bit Automotive AVR Microcontroller, 16KB Flash, 512 Bytes EEPROM, 512 Bytes SRAM, 20-Pin TSSOP, Engineering Sample; DatasheetVersion: revG, Jun-2010; PackageVersion: revA, Dec-2007; PackageReference: 6G; PackageDescription: 20-Lead, 4.4 x 6.5 mm Body, 0.65 mm Pitch, Lead Length: 0.6 mm, Thin Shrink Small Outline Package (TSSOP); Code_JEDEC: MO-153-AC; ComponentLink1Description: Manufacturer URL; ComponentLink1URL: http://www.atmel.com/; ComponentLink2Description: ATtiny87/ATtiny167 Datasheet; ComponentLink2URL: http://www.atmel.com/dyn/resources/prod_documents/doc7728.pdf; ComponentLink3Description: ATtiny87/ATtiny167 Appendix; ComponentLink3URL: http://www.atmel.com/dyn/resources/prod_documents/doc7792.pdf
footprint 6G_N (TSOP, 20-Leads, Body 6.5x4.4mm, Pitch 0.65mm, IPC Medium Density)
footprint 6G_L (TSOP, 20-Leads, Body 6.5x4.4mm, Pitch 0.65mm, IPC High Density)
footprint 6G_M (TSOP, 20-Leads, Body 6.5x4.4mm, Pitch 0.65mm, IPC Low Density)
pins: 1 PA0 (RXLIN/RXD/ADC0/PCINT0) (io), 2 PA1 (TXLIN/TXD/ADC1/PCINT1) (io), 3 PA2 (MISO/DO/OC0A/ADC2/PCINT2) (io), 4 PA3 (INT1/ISRC/ADC3/PCINT3) (io), 5 AVCC (power), 6 AGND (power), 7 PA4 (MOSI/SDA/DI/ICP1/ADC4/PCINT4) (io), 8 PA5 (SCK/SCL/USCK/T1/ADC5/PCINT5) (io), 9 PA6 (~{SS}/AIN0/ADC6/PCINT6) (io), 10 PA7 (AREF/XREF/AIN1/ADC7/PCINT7) (io), 11 PB7 (PCINT15/ADC10/OC1BX/~{RESET}/dW) (io), 12 PB6 (PCINT14/ADC9/OC1AX/INT0) (io), 13 PB5 (PCINT13/ADC8/OC1BW/XTAL2/CLKO) (io), 14 PB4 (PCINT12/OC1AW/XTAL1/CLKI) (io), 15 VCC (power), 16 GND (power), 17 PB3 (PCINT11/OC1BV) (io), 18 PB2 (PCINT10/OC1AV/USCK/SCL) (io), 19 PB1 (PCINT9/OC1BU/DO) (io), 20 PB0 (PCINT8/OC1AU/DI/SDA) (io)

## ATtiny261-15MAZ
designator U?
8-bit Automotive AVR Microcontroller, 16MHz, 2.7-5.5V, 2KB Flash, 128 Bytes EEPROM, 128 Bytes SRAM, Automotive Grade (-40°C to +125°C), 20-Pin QFN; DatasheetVersion: revF, Jan-2011; PackageVersion: revG, Jul-2007; PackageReference: 20PC; PackageDescription: 20-Lead, 4 x 4 x 0.8 mm Body, 0.50 mm Pitch, Quad Flat No-Lead Package (QFN); Code_JEDEC: MO-220WGGD-5; ComponentLink1Description: Manufacturer URL; ComponentLink1URL: http://www.atmel.com/; ComponentLink2Description: ATiny261/461/861 Datasheet; ComponentLink2URL: http://www.atmel.com/dyn/resources/prod_documents/doc7753.pdf; ComponentLink3Description: ATiny261/461/861 Summary; ComponentLink3URL: http://www.atmel.com/dyn/resources/prod_documents/7753S.pdf
footprint 20PC_N (QFN, 20-Leads, Body 4x4mm, Pitch 0.5mm, Thermal Pad 2.7x2.7mm, IPC Medium Density)
footprint 20PC_L (QFN, 20-Leads, Body 4x4mm, Pitch 0.5mm, Thermal Pad 2.7x2.7mm, IPC High Density)
footprint 20PC_M (QFN, 20-Leads, Body 4x4mm, Pitch 0.5mm, Thermal Pad 2.7x2.7mm, IPC Low Density)
pins: 1 PB2 (SCK/USCK/SCL/~{OC1B}/PCINT10) (io), 2 PB3 (OC1B/PCINT11) (io), 3 VCC (power), 4 GND (power), 5 PB4 (ADC7/~{OC1D}/CLKI/XTAL1/PCINT12) (io), 6 PB5 (ADC8/OC1D/CLKO/XTAL2/PCINT13) (io), 7 PB6 (ADC9/INT0/T0/PCINT14) (io), 8 PB7 (ADC10/~{RESET}/PCINT15) (io), 9 PA7 (ADC6/AIN1/PCINT7) (io), 10 PA6 (ADC5/AIN0/PCINT6) (io), 11 PA5 (ADC4/AIN2/PCINT5) (io), 12 PA4 (ADC3/ICP0/PCINT4) (io), 13 AVCC (power), 14 AGND (power), 15 PA3 (AREF/PCINT3) (io), 16 PA2 (ADC2/INT1/USCK/SCL/PCINT2) (io), 17 PA1 (ADC1/DO/PCINT1) (io), 18 PA0 (ADC0/DI/SDA/PCINT0) (io), 19 PB0 (MOSI/DI/SDA/~{OC1A}/PCINT8) (io), 20 PB1 (MISO/DO/OC1A/PCINT9) (io), 21 DAP (power)

## ATtiny261-15MZ
designator U?
8-bit Automotive AVR Microcontroller, 16MHz, 2.7-5.5V, 2KB Flash, 128 Bytes EEPROM, 128 Bytes SRAM, Automotive Grade (-40°C to +125°C), 32-Pin VQFN; DatasheetVersion: revD, Nov-2010; PackageVersion: revH, Nov-2008; PackageReference: 32PN; PackageDescription: 32-Pin Quad Flat No-Lead, 5 x 5 mm Body,  0.5 mm Pitch (QFN); Code_JEDEC: MO-220-VHHD-2; ComponentLink1Description: Manufacturer URL; ComponentLink1URL: http://www.atmel.com/; ComponentLink2Description: ATiny261/461/861 Datasheet; ComponentLink2URL: http://www.atmel.com/dyn/resources/prod_documents/doc7753.pdf; ComponentLink3Description: ATiny261/461/861 Summary; ComponentLink3URL: http://www.atmel.com/dyn/resources/prod_documents/7753S.pdf
footprint 32PN_N (QFN, 32-Leads, Body 5x5mm, Pitch 0.5mm, Thermal Pad 3.2x3.2mm, IPC Medium Density)
footprint 32PN_L (QFN, 32-Leads, Body 5x5mm, Pitch 0.5mm, Thermal Pad 3.2x3.2mm, IPC High Density)
footprint 32PN_M (QFN, 32-Leads, Body 5x5mm, Pitch 0.5mm, Thermal Pad 3.2x3.2mm, IPC Low Density)
part A pins: 2 PB3 (OC1B/PCINT11) (io), 4 VCC (power), 5 GND (power), 7 PB4 (ADC7/~{OC1D}/CLKI/XTAL1/PCINT12) (io), 8 PB5 (ADC8/OC1D/CLKO/XTAL2/PCINT13) (io), 10 PB6 (ADC9/INT0/T0/PCINT14) (io), 11 PB7 (ADC10/~{RESET}/PCINT15) (io), 13 PA7 (ADC6/AIN1/PCINT7) (io), 14 PA6 (ADC5/AIN0/PCINT6) (io), 15 PA5 (ADC4/AIN2/PCINT5) (io), 17 PA4 (ADC3/ICP0/PCINT4) (io), 18 AVCC (power), 21 AGND (power), 22 PA3 (AREF/PCINT3) (io), 23 PA2 (ADC2/INT1/USCK/SCL/PCINT2) (io), 25 PA1 (ADC1/DO/PCINT1) (io), 26 PA0 (ADC0/DI/SDA/PCINT0) (io), 30 PB0 (MOSI/DI/SDA/~{OC1A}/PCINT8) (io), 31 PB1 (MISO/DO/OC1A/PCINT9) (io), 32 PB2 (SCK/USCK/SCL/~{OC1B}/PCINT10) (io)
part B pins: 1 NC, 3 NC, 6 NC, 9 NC, 12 NC, 16 NC, 19 NC, 20 NC, 24 NC, 27 NC, 28 NC, 29 NC, 33 DAP (power)

## ATtiny261-15SZ
designator U?
8-bit Automotive AVR Microcontroller, 16MHz, 2.7-5.5V, 2KB Flash, 128 Bytes EEPROM, 128 Bytes SRAM, Automotive Grade (-40°C to +125°C), 20-Pin SOIC; DatasheetVersion: revD, Nov-2010; PackageVersion: 2009; PackageReference: 20TG; PackageDescription: 20-pin, 0.300” Wide, Plastic Gull-Wing Small Outline (EIAJ SOIC); Code_JEDEC: MS-013-AC; Code_IPC: SOIC127P1030-20; ComponentLink1Description: Manufacturer URL; ComponentLink1URL: http://www.atmel.com/; ComponentLink2Description: ATiny261/461/861 Datasheet; ComponentLink2URL: http://www.atmel.com/dyn/resources/prod_documents/doc7753.pdf; ComponentLink3Description: ATiny261/461/861 Summary; ComponentLink3URL: http://www.atmel.com/dyn/resources/prod_documents/7753S.pdf
footprint 20TG_N (SOIC, 20-Leads, Body 12.8x7.5mm, Pitch 1.27mm, IPC Medium Density)
footprint 20TG_L (SOIC, 20-Leads, Body 12.8x7.5mm, Pitch 1.27mm, IPC High Density)
footprint 20TG_M (SOIC, 20-Leads, Body 12.8x7.5mm, Pitch 1.27mm, IPC Low Density)
pins: 1 PB0 (MOSI/DI/SDA/~{OC1A}/PCINT8) (io), 2 PB1 (MISO/DO/OC1A/PCINT9) (io), 3 PB2 (SCK/USCK/SCL/~{OC1B}/PCINT10) (io), 4 PB3 (OC1B/PCINT11) (io), 5 VCC (power), 6 GND (power), 7 PB4 (ADC7/~{OC1D}/CLKI/XTAL1/PCINT12) (io), 8 PB5 (ADC8/OC1D/CLKO/XTAL2/PCINT13) (io), 9 PB6 (ADC9/INT0/T0/PCINT14) (io), 10 PB7 (ADC10/~{RESET}/PCINT15) (io), 11 PA7 (ADC6/AIN1/PCINT7) (io), 12 PA6 (ADC5/AIN0/PCINT6) (io), 13 PA5 (ADC4/AIN2/PCINT5) (io), 14 PA4 (ADC3/ICP0/PCINT4) (io), 15 AVCC (power), 16 AGND (power), 17 PA3 (AREF/PCINT3) (io), 18 PA2 (ADC2/INT1/USCK/SCL/PCINT2) (io), 19 PA1 (ADC1/DO/PCINT1) (io), 20 PA0 (ADC0/DI/SDA/PCINT0) (io)

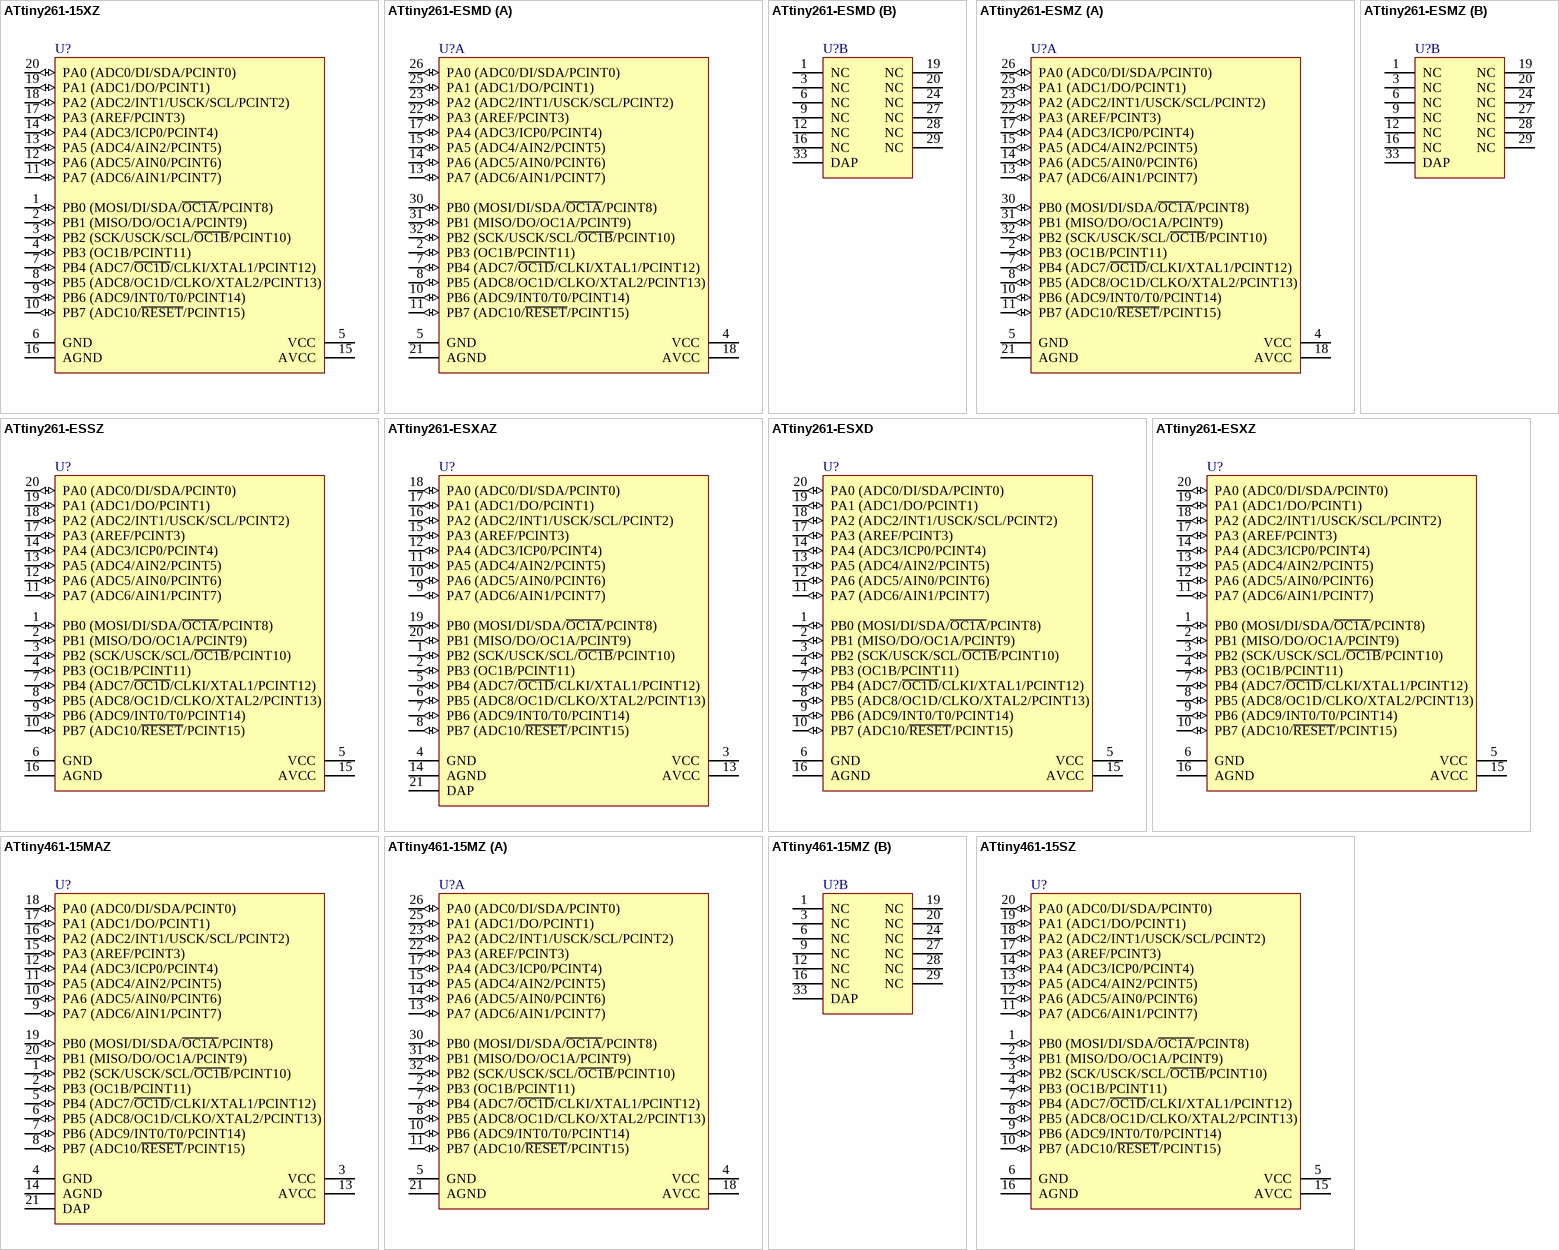
[diagram p20: symbols ATtiny261-15XZ to ATtiny461-15SZ]

## ATtiny261-15XZ
designator U?
8-bit Automotive AVR Microcontroller, 16MHz, 2.7-5.5V, 2KB Flash, 128 Bytes EEPROM, 128 Bytes SRAM, Automotive Grade (-40°C to +125°C), 20-Pin TSSOP; DatasheetVersion: revD, Nov-2010; PackageVersion: revA, Dec-2007; PackageReference: 6G; PackageDescription: 20-Lead, 4.4 x 6.5 mm Body, 0.65 mm Pitch, Lead Length: 0.6 mm, Thin Shrink Small Outline Package (TSSOP); Code_JEDEC: MO-153-AC; ComponentLink1Description: Manufacturer URL; ComponentLink1URL: http://www.atmel.com/; ComponentLink2Description: ATiny261/461/861 Datasheet; ComponentLink2URL: http://www.atmel.com/dyn/resources/prod_documents/doc7753.pdf; ComponentLink3Description: ATiny261/461/861 Summary; ComponentLink3URL: http://www.atmel.com/dyn/resources/prod_documents/7753S.pdf
footprint 6G_N (TSOP, 20-Leads, Body 6.5x4.4mm, Pitch 0.65mm, IPC Medium Density)
footprint 6G_L (TSOP, 20-Leads, Body 6.5x4.4mm, Pitch 0.65mm, IPC High Density)
footprint 6G_M (TSOP, 20-Leads, Body 6.5x4.4mm, Pitch 0.65mm, IPC Low Density)
pins: 1 PB0 (MOSI/DI/SDA/~{OC1A}/PCINT8) (io), 2 PB1 (MISO/DO/OC1A/PCINT9) (io), 3 PB2 (SCK/USCK/SCL/~{OC1B}/PCINT10) (io), 4 PB3 (OC1B/PCINT11) (io), 5 VCC (power), 6 GND (power), 7 PB4 (ADC7/~{OC1D}/CLKI/XTAL1/PCINT12) (io), 8 PB5 (ADC8/OC1D/CLKO/XTAL2/PCINT13) (io), 9 PB6 (ADC9/INT0/T0/PCINT14) (io), 10 PB7 (ADC10/~{RESET}/PCINT15) (io), 11 PA7 (ADC6/AIN1/PCINT7) (io), 12 PA6 (ADC5/AIN0/PCINT6) (io), 13 PA5 (ADC4/AIN2/PCINT5) (io), 14 PA4 (ADC3/ICP0/PCINT4) (io), 15 AVCC (power), 16 AGND (power), 17 PA3 (AREF/PCINT3) (io), 18 PA2 (ADC2/INT1/USCK/SCL/PCINT2) (io), 19 PA1 (ADC1/DO/PCINT1) (io), 20 PA0 (ADC0/DI/SDA/PCINT0) (io)

## ATtiny261-ESMD
designator U?
8-bit Automotive AVR Microcontroller, 16MHz, 2.7-5.5V, 2KB Flash, 128 Bytes EEPROM, 128 Bytes SRAM, Extended Grade (-40°C to +150°C), 32-Pin VQFN; DatasheetVersion: revD, Nov-2010; PackageVersion: revH, Nov-2008; PackageReference: 32PN; PackageDescription: 32-Pin Quad Flat No-Lead, 5 x 5 mm Body,  0.5 mm Pitch (QFN); Code_JEDEC: MO-220-VHHD-2; ComponentLink1Description: Manufacturer URL; ComponentLink1URL: http://www.atmel.com/; ComponentLink2Description: ATiny261/461/861 Datasheet; ComponentLink2URL: http://www.atmel.com/dyn/resources/prod_documents/doc7753.pdf; ComponentLink3Description: ATiny261/461/861 Summary; ComponentLink3URL: http://www.atmel.com/dyn/resources/prod_documents/7753S.pdf; ComponentLink4Description: ATiny261/461/861 Appendix; ComponentLink4URL: http://www.atmel.com/dyn/resources/prod_documents/doc7793.pdf
footprint 32PN_N (QFN, 32-Leads, Body 5x5mm, Pitch 0.5mm, Thermal Pad 3.2x3.2mm, IPC Medium Density)
footprint 32PN_L (QFN, 32-Leads, Body 5x5mm, Pitch 0.5mm, Thermal Pad 3.2x3.2mm, IPC High Density)
footprint 32PN_M (QFN, 32-Leads, Body 5x5mm, Pitch 0.5mm, Thermal Pad 3.2x3.2mm, IPC Low Density)
part A pins: 2 PB3 (OC1B/PCINT11) (io), 4 VCC (power), 5 GND (power), 7 PB4 (ADC7/~{OC1D}/CLKI/XTAL1/PCINT12) (io), 8 PB5 (ADC8/OC1D/CLKO/XTAL2/PCINT13) (io), 10 PB6 (ADC9/INT0/T0/PCINT14) (io), 11 PB7 (ADC10/~{RESET}/PCINT15) (io), 13 PA7 (ADC6/AIN1/PCINT7) (io), 14 PA6 (ADC5/AIN0/PCINT6) (io), 15 PA5 (ADC4/AIN2/PCINT5) (io), 17 PA4 (ADC3/ICP0/PCINT4) (io), 18 AVCC (power), 21 AGND (power), 22 PA3 (AREF/PCINT3) (io), 23 PA2 (ADC2/INT1/USCK/SCL/PCINT2) (io), 25 PA1 (ADC1/DO/PCINT1) (io), 26 PA0 (ADC0/DI/SDA/PCINT0) (io), 30 PB0 (MOSI/DI/SDA/~{OC1A}/PCINT8) (io), 31 PB1 (MISO/DO/OC1A/PCINT9) (io), 32 PB2 (SCK/USCK/SCL/~{OC1B}/PCINT10) (io)
part B pins: 1 NC, 3 NC, 6 NC, 9 NC, 12 NC, 16 NC, 19 NC, 20 NC, 24 NC, 27 NC, 28 NC, 29 NC, 33 DAP (power)

## ATtiny261-ESMZ
designator U?
8-bit Automotive AVR Microcontroller, 2KB Flash, 128 Bytes EEPROM, 128 Bytes SRAM, Automotive Grade (-40°C to +125°C), 32-Pin VQFN, Engineering Sample; DatasheetVersion: revD, Nov-2009; PackageVersion: revH, Nov-2008; PackageReference: 32PN; PackageDescription: 32-Pin Quad Flat No-Lead, 5 x 5 mm Body,  0.5 mm Pitch (QFN); Code_JEDEC: MO-220-VHHD-2; ComponentLink1Description: Manufacturer URL; ComponentLink1URL: http://www.atmel.com/; ComponentLink2Description: ATiny261/461/861 Datasheet; ComponentLink2URL: http://www.atmel.com/dyn/resources/prod_documents/doc7753.pdf; ComponentLink3Description: ATiny261/461/861 Summary; ComponentLink3URL: http://www.atmel.com/dyn/resources/prod_documents/7753S.pdf
footprint 32PN_N (QFN, 32-Leads, Body 5x5mm, Pitch 0.5mm, Thermal Pad 3.2x3.2mm, IPC Medium Density)
footprint 32PN_L (QFN, 32-Leads, Body 5x5mm, Pitch 0.5mm, Thermal Pad 3.2x3.2mm, IPC High Density)
footprint 32PN_M (QFN, 32-Leads, Body 5x5mm, Pitch 0.5mm, Thermal Pad 3.2x3.2mm, IPC Low Density)
part A pins: 2 PB3 (OC1B/PCINT11) (io), 4 VCC (power), 5 GND (power), 7 PB4 (ADC7/~{OC1D}/CLKI/XTAL1/PCINT12) (io), 8 PB5 (ADC8/OC1D/CLKO/XTAL2/PCINT13) (io), 10 PB6 (ADC9/INT0/T0/PCINT14) (io), 11 PB7 (ADC10/~{RESET}/PCINT15) (io), 13 PA7 (ADC6/AIN1/PCINT7) (io), 14 PA6 (ADC5/AIN0/PCINT6) (io), 15 PA5 (ADC4/AIN2/PCINT5) (io), 17 PA4 (ADC3/ICP0/PCINT4) (io), 18 AVCC (power), 21 AGND (power), 22 PA3 (AREF/PCINT3) (io), 23 PA2 (ADC2/INT1/USCK/SCL/PCINT2) (io), 25 PA1 (ADC1/DO/PCINT1) (io), 26 PA0 (ADC0/DI/SDA/PCINT0) (io), 30 PB0 (MOSI/DI/SDA/~{OC1A}/PCINT8) (io), 31 PB1 (MISO/DO/OC1A/PCINT9) (io), 32 PB2 (SCK/USCK/SCL/~{OC1B}/PCINT10) (io)
part B pins: 1 NC, 3 NC, 6 NC, 9 NC, 12 NC, 16 NC, 19 NC, 20 NC, 24 NC, 27 NC, 28 NC, 29 NC, 33 DAP (power)

## ATtiny261-ESSZ
designator U?
8-bit Automotive AVR Microcontroller, 2KB Flash, 128 Bytes EEPROM, 128 Bytes SRAM, Automotive Grade (-40°C to +125°C), 20-Pin SOIC, Engineering Sample; DatasheetVersion: revD, Nov-2009; PackageVersion: 2009; PackageReference: 20TG; PackageDescription: 20-pin, 0.300” Wide, Plastic Gull-Wing Small Outline (EIAJ SOIC); Code_JEDEC: MS-013-AC; Code_IPC: SOIC127P1030-20; ComponentLink1Description: Manufacturer URL; ComponentLink1URL: http://www.atmel.com/
footprint 20TG_N (SOIC, 20-Leads, Body 12.8x7.5mm, Pitch 1.27mm, IPC Medium Density)
footprint 20TG_L (SOIC, 20-Leads, Body 12.8x7.5mm, Pitch 1.27mm, IPC High Density)
footprint 20TG_M (SOIC, 20-Leads, Body 12.8x7.5mm, Pitch 1.27mm, IPC Low Density)
pins: 1 PB0 (MOSI/DI/SDA/~{OC1A}/PCINT8) (io), 2 PB1 (MISO/DO/OC1A/PCINT9) (io), 3 PB2 (SCK/USCK/SCL/~{OC1B}/PCINT10) (io), 4 PB3 (OC1B/PCINT11) (io), 5 VCC (power), 6 GND (power), 7 PB4 (ADC7/~{OC1D}/CLKI/XTAL1/PCINT12) (io), 8 PB5 (ADC8/OC1D/CLKO/XTAL2/PCINT13) (io), 9 PB6 (ADC9/INT0/T0/PCINT14) (io), 10 PB7 (ADC10/~{RESET}/PCINT15) (io), 11 PA7 (ADC6/AIN1/PCINT7) (io), 12 PA6 (ADC5/AIN0/PCINT6) (io), 13 PA5 (ADC4/AIN2/PCINT5) (io), 14 PA4 (ADC3/ICP0/PCINT4) (io), 15 AVCC (power), 16 AGND (power), 17 PA3 (AREF/PCINT3) (io), 18 PA2 (ADC2/INT1/USCK/SCL/PCINT2) (io), 19 PA1 (ADC1/DO/PCINT1) (io), 20 PA0 (ADC0/DI/SDA/PCINT0) (io)

## ATtiny261-ESXAZ
designator U?
8-bit Automotive AVR Microcontroller, 2KB Flash, 128 Bytes EEPROM, 128 Bytes SRAM, Automotive Grade (-40°C to +125°C), 20-Pin QFN, Engineering Sample; DatasheetVersion: revD, Nov-2009; PackageVersion: revG, Jul-2007; PackageReference: 20PC; PackageDescription: 20-Lead, 4 x 4 x 0.8 mm Body, 0.50 mm Pitch, Quad Flat No-Lead Package (QFN); Code_JEDEC: MO-220WGGD-5; ComponentLink1Description: Manufacturer URL; ComponentLink1URL: http://www.atmel.com/
footprint 20PC_N (QFN, 20-Leads, Body 4x4mm, Pitch 0.5mm, Thermal Pad 2.7x2.7mm, IPC Medium Density)
footprint 20PC_L (QFN, 20-Leads, Body 4x4mm, Pitch 0.5mm, Thermal Pad 2.7x2.7mm, IPC High Density)
footprint 20PC_M (QFN, 20-Leads, Body 4x4mm, Pitch 0.5mm, Thermal Pad 2.7x2.7mm, IPC Low Density)
pins: 1 PB2 (SCK/USCK/SCL/~{OC1B}/PCINT10) (io), 2 PB3 (OC1B/PCINT11) (io), 3 VCC (power), 4 GND (power), 5 PB4 (ADC7/~{OC1D}/CLKI/XTAL1/PCINT12) (io), 6 PB5 (ADC8/OC1D/CLKO/XTAL2/PCINT13) (io), 7 PB6 (ADC9/INT0/T0/PCINT14) (io), 8 PB7 (ADC10/~{RESET}/PCINT15) (io), 9 PA7 (ADC6/AIN1/PCINT7) (io), 10 PA6 (ADC5/AIN0/PCINT6) (io), 11 PA5 (ADC4/AIN2/PCINT5) (io), 12 PA4 (ADC3/ICP0/PCINT4) (io), 13 AVCC (power), 14 AGND (power), 15 PA3 (AREF/PCINT3) (io), 16 PA2 (ADC2/INT1/USCK/SCL/PCINT2) (io), 17 PA1 (ADC1/DO/PCINT1) (io), 18 PA0 (ADC0/DI/SDA/PCINT0) (io), 19 PB0 (MOSI/DI/SDA/~{OC1A}/PCINT8) (io), 20 PB1 (MISO/DO/OC1A/PCINT9) (io), 21 DAP (power)

## ATtiny261-ESXD
designator U?
8-bit Automotive AVR Microcontroller, 16MHz, 2.7-5.5V, 2KB Flash, 128 Bytes EEPROM, 128 Bytes SRAM, Extended Grade (-40°C to +150°C), 20-Pin TSSOP; DatasheetVersion: revD, Nov-2010; PackageVersion: revA, Dec-2007; PackageReference: 6G; PackageDescription: 20-Lead, 4.4 x 6.5 mm Body, 0.65 mm Pitch, Lead Length: 0.6 mm, Thin Shrink Small Outline Package (TSSOP); Code_JEDEC: MO-153-AC; ComponentLink1Description: Manufacturer URL; ComponentLink1URL: http://www.atmel.com/; ComponentLink2Description: ATiny261/461/861 Datasheet; ComponentLink2URL: http://www.atmel.com/dyn/resources/prod_documents/doc7753.pdf; ComponentLink3Description: ATiny261/461/861 Summary; ComponentLink3URL: http://www.atmel.com/dyn/resources/prod_documents/7753S.pdf; ComponentLink4Description: ATiny261/461/861 Appendix; ComponentLink4URL: http://www.atmel.com/dyn/resources/prod_documents/doc7793.pdf
footprint 6G_N (TSOP, 20-Leads, Body 6.5x4.4mm, Pitch 0.65mm, IPC Medium Density)
footprint 6G_L (TSOP, 20-Leads, Body 6.5x4.4mm, Pitch 0.65mm, IPC High Density)
footprint 6G_M (TSOP, 20-Leads, Body 6.5x4.4mm, Pitch 0.65mm, IPC Low Density)
pins: 1 PB0 (MOSI/DI/SDA/~{OC1A}/PCINT8) (io), 2 PB1 (MISO/DO/OC1A/PCINT9) (io), 3 PB2 (SCK/USCK/SCL/~{OC1B}/PCINT10) (io), 4 PB3 (OC1B/PCINT11) (io), 5 VCC (power), 6 GND (power), 7 PB4 (ADC7/~{OC1D}/CLKI/XTAL1/PCINT12) (io), 8 PB5 (ADC8/OC1D/CLKO/XTAL2/PCINT13) (io), 9 PB6 (ADC9/INT0/T0/PCINT14) (io), 10 PB7 (ADC10/~{RESET}/PCINT15) (io), 11 PA7 (ADC6/AIN1/PCINT7) (io), 12 PA6 (ADC5/AIN0/PCINT6) (io), 13 PA5 (ADC4/AIN2/PCINT5) (io), 14 PA4 (ADC3/ICP0/PCINT4) (io), 15 AVCC (power), 16 AGND (power), 17 PA3 (AREF/PCINT3) (io), 18 PA2 (ADC2/INT1/USCK/SCL/PCINT2) (io), 19 PA1 (ADC1/DO/PCINT1) (io), 20 PA0 (ADC0/DI/SDA/PCINT0) (io)

## ATtiny261-ESXZ
designator U?
8-bit Automotive AVR Microcontroller, 2KB Flash, 128 Bytes EEPROM, 128 Bytes SRAM, Automotive Grade (-40°C to +125°C), 20-Pin TSSOP, Engineering Sample; DatasheetVersion: revD, Nov-2009; PackageVersion: revA, Dec-2007; PackageReference: 6G; PackageDescription: 20-Lead, 4.4 x 6.5 mm Body, 0.65 mm Pitch, Lead Length: 0.6 mm, Thin Shrink Small Outline Package (TSSOP); Code_JEDEC: MO-153-AC; ComponentLink1Description: Manufacturer URL; ComponentLink1URL: http://www.atmel.com/
footprint 6G_N (TSOP, 20-Leads, Body 6.5x4.4mm, Pitch 0.65mm, IPC Medium Density)
footprint 6G_L (TSOP, 20-Leads, Body 6.5x4.4mm, Pitch 0.65mm, IPC High Density)
footprint 6G_M (TSOP, 20-Leads, Body 6.5x4.4mm, Pitch 0.65mm, IPC Low Density)
pins: 1 PB0 (MOSI/DI/SDA/~{OC1A}/PCINT8) (io), 2 PB1 (MISO/DO/OC1A/PCINT9) (io), 3 PB2 (SCK/USCK/SCL/~{OC1B}/PCINT10) (io), 4 PB3 (OC1B/PCINT11) (io), 5 VCC (power), 6 GND (power), 7 PB4 (ADC7/~{OC1D}/CLKI/XTAL1/PCINT12) (io), 8 PB5 (ADC8/OC1D/CLKO/XTAL2/PCINT13) (io), 9 PB6 (ADC9/INT0/T0/PCINT14) (io), 10 PB7 (ADC10/~{RESET}/PCINT15) (io), 11 PA7 (ADC6/AIN1/PCINT7) (io), 12 PA6 (ADC5/AIN0/PCINT6) (io), 13 PA5 (ADC4/AIN2/PCINT5) (io), 14 PA4 (ADC3/ICP0/PCINT4) (io), 15 AVCC (power), 16 AGND (power), 17 PA3 (AREF/PCINT3) (io), 18 PA2 (ADC2/INT1/USCK/SCL/PCINT2) (io), 19 PA1 (ADC1/DO/PCINT1) (io), 20 PA0 (ADC0/DI/SDA/PCINT0) (io)

## ATtiny461-15MAZ
designator U?
8-bit Automotive AVR Microcontroller, 16MHz, 2.7-5.5V, 4KB Flash, 256 Bytes EEPROM, 256 Bytes SRAM, Automotive Grade (-40°C to +125°C), 20-Pin QFN; DatasheetVersion: revF, Jan-2011; PackageVersion: revG, Jul-2007; PackageReference: 20PC; PackageDescription: 20-Lead, 4 x 4 x 0.8 mm Body, 0.50 mm Pitch, Quad Flat No-Lead Package (QFN); Code_JEDEC: MO-220WGGD-5; ComponentLink1Description: Manufacturer URL; ComponentLink1URL: http://www.atmel.com/; ComponentLink2Description: ATiny261/461/861 Datasheet; ComponentLink2URL: http://www.atmel.com/dyn/resources/prod_documents/doc7753.pdf; ComponentLink3Description: ATiny261/461/861 Summary; ComponentLink3URL: http://www.atmel.com/dyn/resources/prod_documents/7753S.pdf
footprint 20PC_N (QFN, 20-Leads, Body 4x4mm, Pitch 0.5mm, Thermal Pad 2.7x2.7mm, IPC Medium Density)
footprint 20PC_L (QFN, 20-Leads, Body 4x4mm, Pitch 0.5mm, Thermal Pad 2.7x2.7mm, IPC High Density)
footprint 20PC_M (QFN, 20-Leads, Body 4x4mm, Pitch 0.5mm, Thermal Pad 2.7x2.7mm, IPC Low Density)
pins: 1 PB2 (SCK/USCK/SCL/~{OC1B}/PCINT10) (io), 2 PB3 (OC1B/PCINT11) (io), 3 VCC (power), 4 GND (power), 5 PB4 (ADC7/~{OC1D}/CLKI/XTAL1/PCINT12) (io), 6 PB5 (ADC8/OC1D/CLKO/XTAL2/PCINT13) (io), 7 PB6 (ADC9/INT0/T0/PCINT14) (io), 8 PB7 (ADC10/~{RESET}/PCINT15) (io), 9 PA7 (ADC6/AIN1/PCINT7) (io), 10 PA6 (ADC5/AIN0/PCINT6) (io), 11 PA5 (ADC4/AIN2/PCINT5) (io), 12 PA4 (ADC3/ICP0/PCINT4) (io), 13 AVCC (power), 14 AGND (power), 15 PA3 (AREF/PCINT3) (io), 16 PA2 (ADC2/INT1/USCK/SCL/PCINT2) (io), 17 PA1 (ADC1/DO/PCINT1) (io), 18 PA0 (ADC0/DI/SDA/PCINT0) (io), 19 PB0 (MOSI/DI/SDA/~{OC1A}/PCINT8) (io), 20 PB1 (MISO/DO/OC1A/PCINT9) (io), 21 DAP (power)

## ATtiny461-15MZ
designator U?
8-bit Automotive AVR Microcontroller, 16MHz, 2.7-5.5V, 4KB Flash, 256 Bytes EEPROM, 256 Bytes SRAM, Automotive Grade (-40°C to +125°C), 32-Pin VQFN; DatasheetVersion: revD, Nov-2010; PackageVersion: revH, Nov-2008; PackageReference: 32PN; PackageDescription: 32-Pin Quad Flat No-Lead, 5 x 5 mm Body,  0.5 mm Pitch (QFN); Code_JEDEC: MO-220-VHHD-2; ComponentLink1Description: Manufacturer URL; ComponentLink1URL: http://www.atmel.com/; ComponentLink2Description: ATiny261/461/861 Datasheet; ComponentLink2URL: http://www.atmel.com/dyn/resources/prod_documents/doc7753.pdf; ComponentLink3Description: ATiny261/461/861 Summary; ComponentLink3URL: http://www.atmel.com/dyn/resources/prod_documents/7753S.pdf
footprint 32PN_N (QFN, 32-Leads, Body 5x5mm, Pitch 0.5mm, Thermal Pad 3.2x3.2mm, IPC Medium Density)
footprint 32PN_L (QFN, 32-Leads, Body 5x5mm, Pitch 0.5mm, Thermal Pad 3.2x3.2mm, IPC High Density)
footprint 32PN_M (QFN, 32-Leads, Body 5x5mm, Pitch 0.5mm, Thermal Pad 3.2x3.2mm, IPC Low Density)
part A pins: 2 PB3 (OC1B/PCINT11) (io), 4 VCC (power), 5 GND (power), 7 PB4 (ADC7/~{OC1D}/CLKI/XTAL1/PCINT12) (io), 8 PB5 (ADC8/OC1D/CLKO/XTAL2/PCINT13) (io), 10 PB6 (ADC9/INT0/T0/PCINT14) (io), 11 PB7 (ADC10/~{RESET}/PCINT15) (io), 13 PA7 (ADC6/AIN1/PCINT7) (io), 14 PA6 (ADC5/AIN0/PCINT6) (io), 15 PA5 (ADC4/AIN2/PCINT5) (io), 17 PA4 (ADC3/ICP0/PCINT4) (io), 18 AVCC (power), 21 AGND (power), 22 PA3 (AREF/PCINT3) (io), 23 PA2 (ADC2/INT1/USCK/SCL/PCINT2) (io), 25 PA1 (ADC1/DO/PCINT1) (io), 26 PA0 (ADC0/DI/SDA/PCINT0) (io), 30 PB0 (MOSI/DI/SDA/~{OC1A}/PCINT8) (io), 31 PB1 (MISO/DO/OC1A/PCINT9) (io), 32 PB2 (SCK/USCK/SCL/~{OC1B}/PCINT10) (io)
part B pins: 1 NC, 3 NC, 6 NC, 9 NC, 12 NC, 16 NC, 19 NC, 20 NC, 24 NC, 27 NC, 28 NC, 29 NC, 33 DAP (power)

## ATtiny461-15SZ
designator U?
8-bit Automotive AVR Microcontroller, 16MHz, 2.7-5.5V, 4KB Flash, 256 Bytes EEPROM, 256 Bytes SRAM, Automotive Grade (-40°C to +125°C), 20-Pin SOIC; DatasheetVersion: revD, Nov-2010; PackageVersion: 2009; PackageReference: 20TG; PackageDescription: 20-pin, 0.300” Wide, Plastic Gull-Wing Small Outline (EIAJ SOIC); Code_JEDEC: MS-013-AC; Code_IPC: SOIC127P1030-20; ComponentLink1Description: Manufacturer URL; ComponentLink1URL: http://www.atmel.com/; ComponentLink2Description: ATiny261/461/861 Datasheet; ComponentLink2URL: http://www.atmel.com/dyn/resources/prod_documents/doc7753.pdf; ComponentLink3Description: ATiny261/461/861 Summary; ComponentLink3URL: http://www.atmel.com/dyn/resources/prod_documents/7753S.pdf
footprint 20TG_N (SOIC, 20-Leads, Body 12.8x7.5mm, Pitch 1.27mm, IPC Medium Density)
footprint 20TG_L (SOIC, 20-Leads, Body 12.8x7.5mm, Pitch 1.27mm, IPC High Density)
footprint 20TG_M (SOIC, 20-Leads, Body 12.8x7.5mm, Pitch 1.27mm, IPC Low Density)
pins: 1 PB0 (MOSI/DI/SDA/~{OC1A}/PCINT8) (io), 2 PB1 (MISO/DO/OC1A/PCINT9) (io), 3 PB2 (SCK/USCK/SCL/~{OC1B}/PCINT10) (io), 4 PB3 (OC1B/PCINT11) (io), 5 VCC (power), 6 GND (power), 7 PB4 (ADC7/~{OC1D}/CLKI/XTAL1/PCINT12) (io), 8 PB5 (ADC8/OC1D/CLKO/XTAL2/PCINT13) (io), 9 PB6 (ADC9/INT0/T0/PCINT14) (io), 10 PB7 (ADC10/~{RESET}/PCINT15) (io), 11 PA7 (ADC6/AIN1/PCINT7) (io), 12 PA6 (ADC5/AIN0/PCINT6) (io), 13 PA5 (ADC4/AIN2/PCINT5) (io), 14 PA4 (ADC3/ICP0/PCINT4) (io), 15 AVCC (power), 16 AGND (power), 17 PA3 (AREF/PCINT3) (io), 18 PA2 (ADC2/INT1/USCK/SCL/PCINT2) (io), 19 PA1 (ADC1/DO/PCINT1) (io), 20 PA0 (ADC0/DI/SDA/PCINT0) (io)

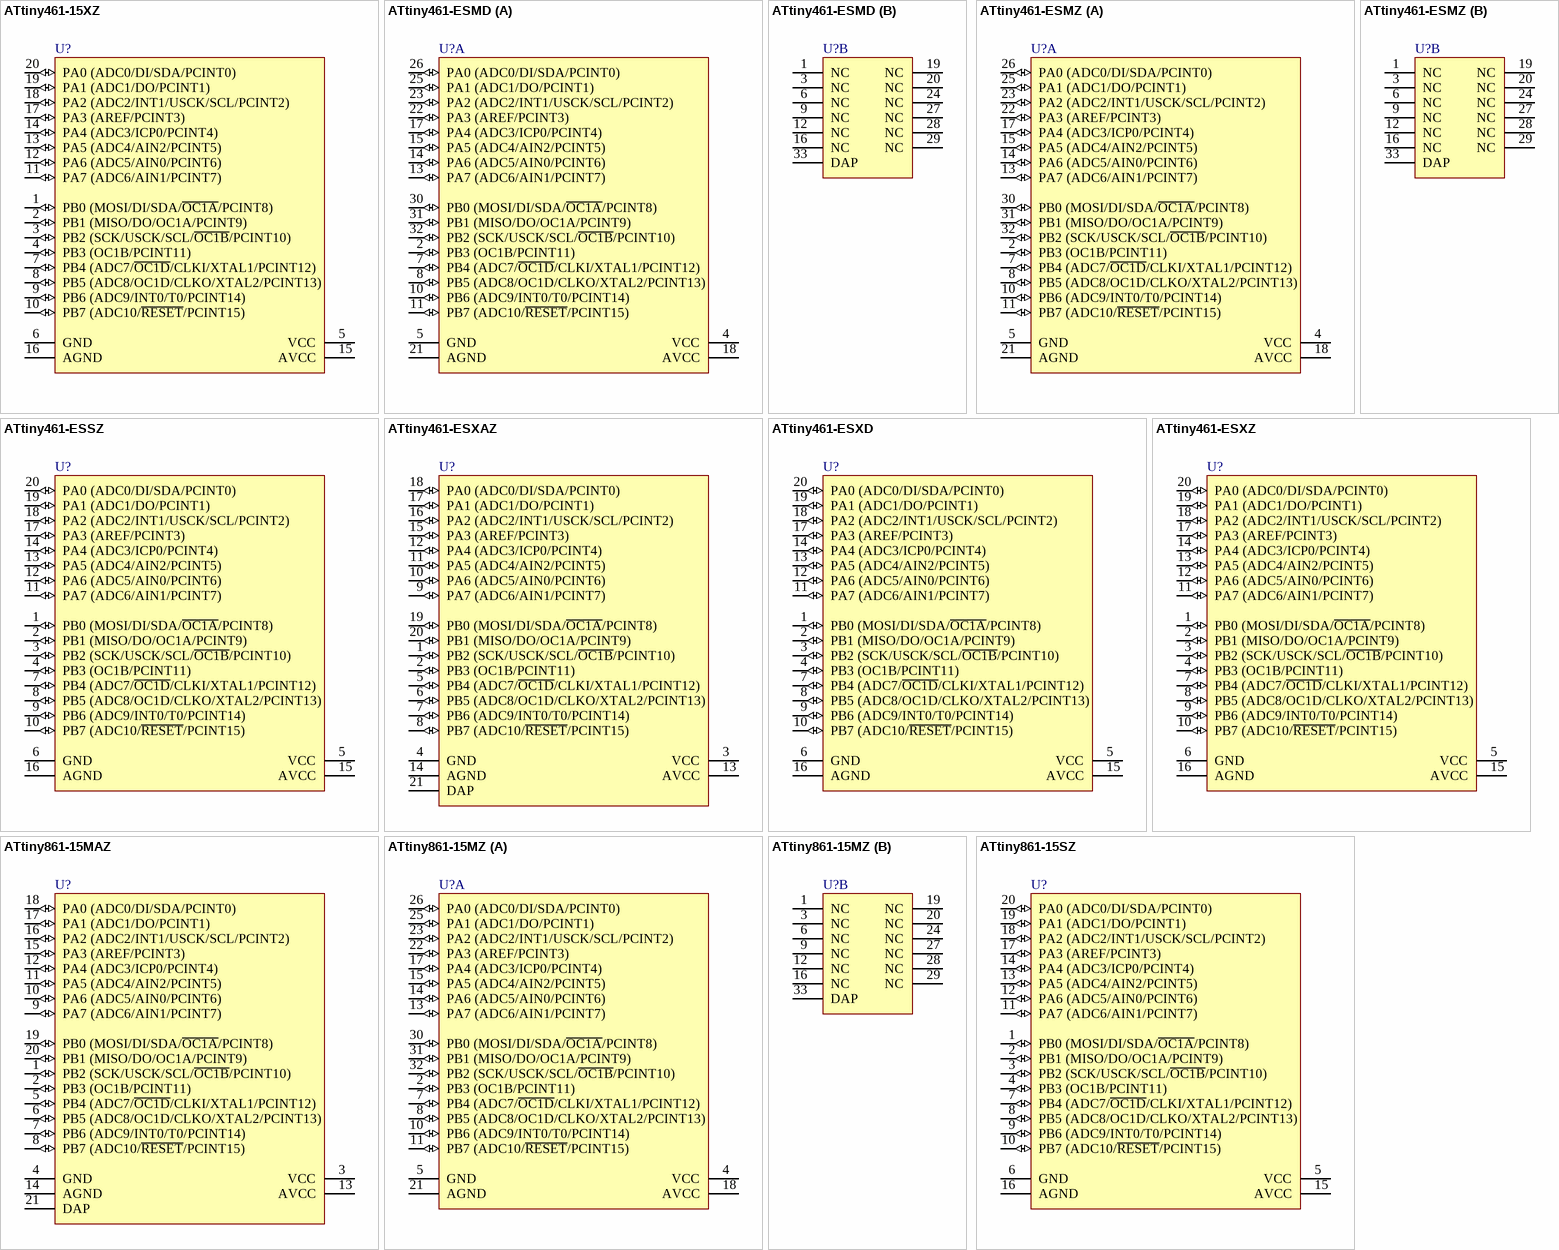
[diagram p21: symbols ATtiny461-15XZ to ATtiny861-15SZ]

## ATtiny461-15XZ
designator U?
8-bit Automotive AVR Microcontroller, 16MHz, 2.7-5.5V, 4KB Flash, 256 Bytes EEPROM, 256 Bytes SRAM, Automotive Grade (-40°C to +125°C), 20-Pin TSSOP; DatasheetVersion: revD, Nov-2010; PackageVersion: revA, Dec-2007; PackageReference: 6G; PackageDescription: 20-Lead, 4.4 x 6.5 mm Body, 0.65 mm Pitch, Lead Length: 0.6 mm, Thin Shrink Small Outline Package (TSSOP); Code_JEDEC: MO-153-AC; ComponentLink1Description: Manufacturer URL; ComponentLink1URL: http://www.atmel.com/; ComponentLink2Description: ATiny261/461/861 Datasheet; ComponentLink2URL: http://www.atmel.com/dyn/resources/prod_documents/doc7753.pdf; ComponentLink3Description: ATiny261/461/861 Summary; ComponentLink3URL: http://www.atmel.com/dyn/resources/prod_documents/7753S.pdf
footprint 6G_N (TSOP, 20-Leads, Body 6.5x4.4mm, Pitch 0.65mm, IPC Medium Density)
footprint 6G_L (TSOP, 20-Leads, Body 6.5x4.4mm, Pitch 0.65mm, IPC High Density)
footprint 6G_M (TSOP, 20-Leads, Body 6.5x4.4mm, Pitch 0.65mm, IPC Low Density)
pins: 1 PB0 (MOSI/DI/SDA/~{OC1A}/PCINT8) (io), 2 PB1 (MISO/DO/OC1A/PCINT9) (io), 3 PB2 (SCK/USCK/SCL/~{OC1B}/PCINT10) (io), 4 PB3 (OC1B/PCINT11) (io), 5 VCC (power), 6 GND (power), 7 PB4 (ADC7/~{OC1D}/CLKI/XTAL1/PCINT12) (io), 8 PB5 (ADC8/OC1D/CLKO/XTAL2/PCINT13) (io), 9 PB6 (ADC9/INT0/T0/PCINT14) (io), 10 PB7 (ADC10/~{RESET}/PCINT15) (io), 11 PA7 (ADC6/AIN1/PCINT7) (io), 12 PA6 (ADC5/AIN0/PCINT6) (io), 13 PA5 (ADC4/AIN2/PCINT5) (io), 14 PA4 (ADC3/ICP0/PCINT4) (io), 15 AVCC (power), 16 AGND (power), 17 PA3 (AREF/PCINT3) (io), 18 PA2 (ADC2/INT1/USCK/SCL/PCINT2) (io), 19 PA1 (ADC1/DO/PCINT1) (io), 20 PA0 (ADC0/DI/SDA/PCINT0) (io)